# Altium schematic symbol library TarabusLibrary.SchLib: 307 symbols (part 4 of 4)
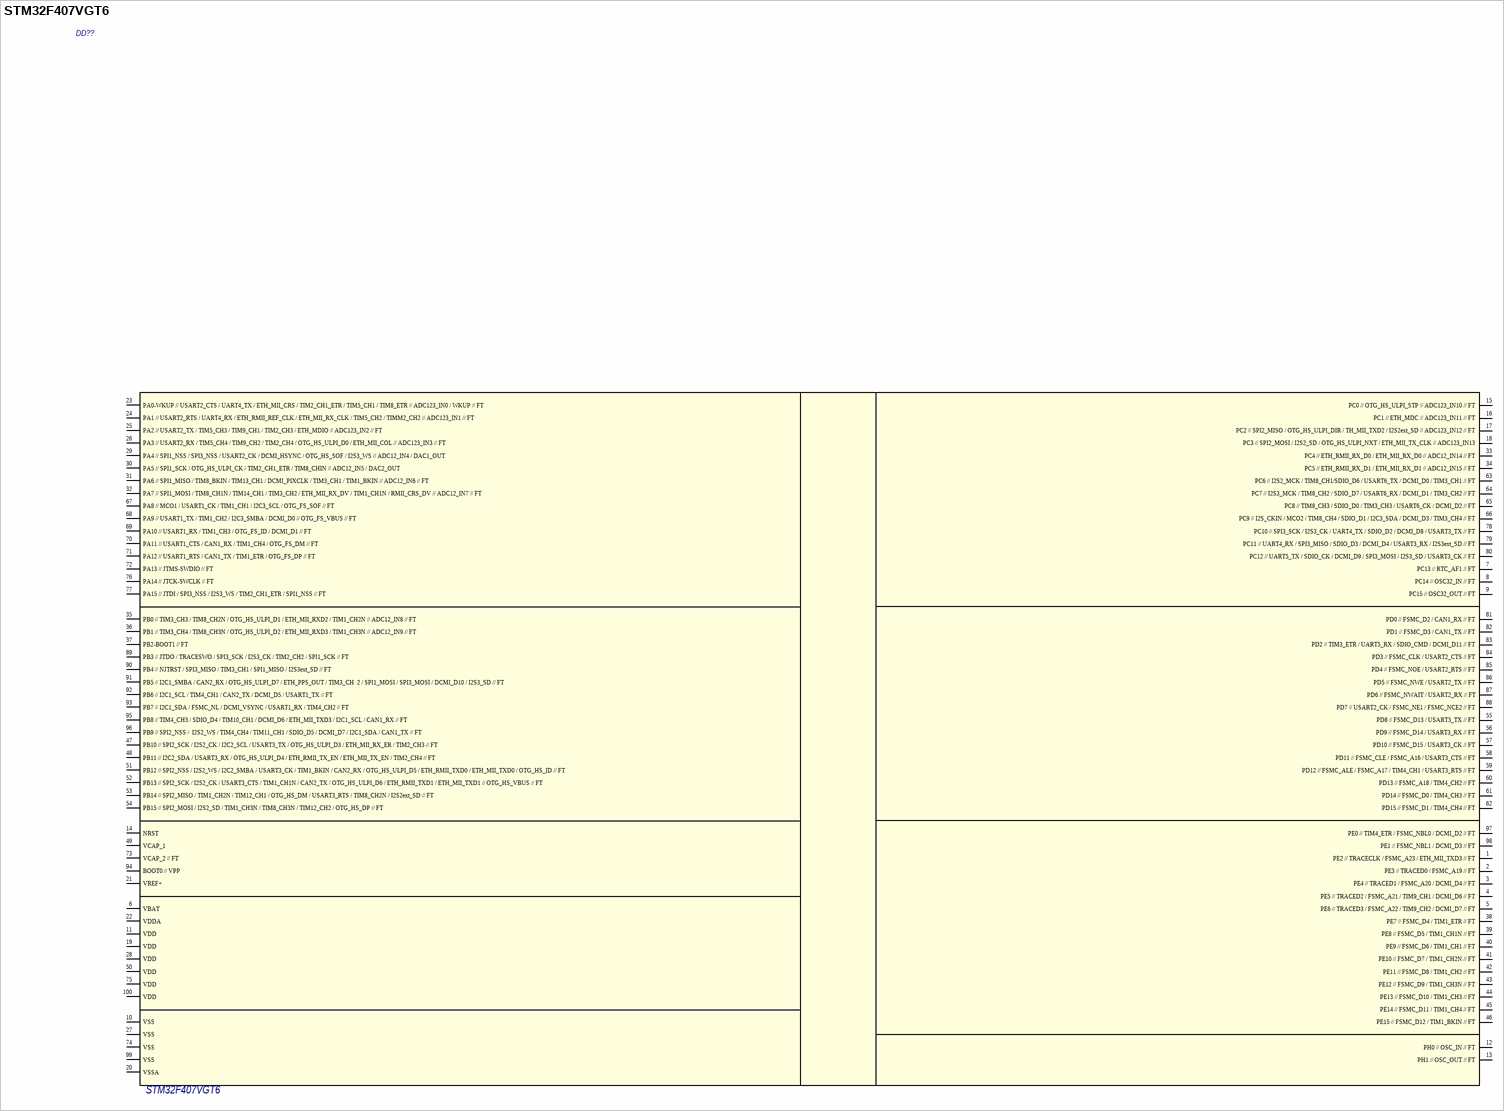
[diagram p48: symbol STM32F407VGT6]

## STM32F407VGT6
designator DD??
Микроконтроллер
footprint LQPF100_A
footprint LQPF100_H
pins: 1 PE2 // TRACECLK / FSMC_A23 / ETH_MII_TXD3 // FT, 2 PE3 // TRACED0 / FSMC_A19 // FT, 3 PE4 // TRACED1 / FSMC_A20 / DCMI_D4 // FT, 4 PE5 // TRACED2 / FSMC_A21 / TIM9_CH1 / DCMI_D6 // FT, 5 PE6 // TRACED3 / FSMC_A22 / TIM9_CH2 / DCMI_D7 // FT, 6 VBAT, 7 PC13 // RTC_AF1 // FT, 8 PC14 // OSC32_IN // FT, 9 PC15 // OSC32_OUT // FT, 10 VSS, 11 VDD, 12 PH0 // OSC_IN // FT, 13 PH1 // OSC_OUT // FT, 14 NRST, 15 PC0 // OTG_HS_ULPI_STP // ADC123_IN10 // FT, 16 PC1 // ETH_MDC // ADC123_IN11 // FT, 17 PC2 // SPI2_MISO / OTG_HS_ULPI_DIR / TH_MII_TXD2 / I2S2ext_SD // ADC123_IN12 // FT, 18 PC3 // SPI2_MOSI / I2S2_SD / OTG_HS_ULPI_NXT / ETH_MII_TX_CLK // ADC123_IN13, 19 VDD, 20 VSSA, 21 VREF+, 22 VDDA, 23 PA0-WKUP // USART2_CTS / UART4_TX / ETH_MII_CRS / TIM2_CH1_ETR / TIM5_CH1 / TIM8_ETR // ADC123_IN0 / WKUP // FT , 24 PA1 // USART2_RTS / UART4_RX / ETH_RMII_REF_CLK / ETH_MII_RX_CLK / TIM5_CH2 / TIMM2_CH2 // ADC123_IN1 // FT, 25 PA2 // USART2_TX / TIM5_CH3 / TIM9_CH1 / TIM2_CH3 / ETH_MDIO // ADC123_IN2 // FT, 26 PA3 // USART2_RX / TIM5_CH4 / TIM9_CH2 / TIM2_CH4 / OTG_HS_ULPI_D0 / ETH_MII_COL // ADC123_IN3 // FT, 27 VSS, 28 VDD, 29 PA4 // SPI1_NSS / SPI3_NSS / USART2_CK / DCMI_HSYNC / OTG_HS_SOF / I2S3_WS // ADC12_IN4 / DAC1_OUT , 30 PA5 // SPI1_SCK / OTG_HS_ULPI_CK / TIM2_CH1_ETR / TIM8_CHIN // ADC12_IN5 / DAC2_OUT, 31 PA6 // SPI1_MISO / TIM8_BKIN / TIM13_CH1 / DCMI_PIXCLK / TIM3_CH1 / TIM1_BKIN // ADC12_IN6 // FT, 32 PA7 // SPI1_MOSI / TIM8_CH1N / TIM14_CH1 / TIM3_CH2 / ETH_MII_RX_DV / TIM1_CH1N / RMII_CRS_DV // ADC12_IN7 // FT, 33 PC4 // ETH_RMII_RX_D0 / ETH_MII_RX_D0 // ADC12_IN14 // FT, 34 PC5 // ETH_RMII_RX_D1 / ETH_MII_RX_D1 // ADC12_IN15 // FT, 35 PB0 // TIM3_CH3 / TIM8_CH2N / OTG_HS_ULPI_D1 / ETH_MII_RXD2 / TIM1_CH2N // ADC12_IN8 // FT, 36 PB1 // TIM3_CH4 / TIM8_CH3N / OTG_HS_ULPI_D2 / ETH_MII_RXD3 / TIM1_CH3N // ADC12_IN9 // FT, 37 PB2-BOOT1 // FT, 38 PE7 // FSMC_D4 / TIM1_ETR // FT, 39 PE8 // FSMC_D5 / TIM1_CH1N // FT, 40 PE9 // FSMC_D6 / TIM1_CH1 // FT, 41 PE10 // FSMC_D7 / TIM1_CH2N // FT, 42 PE11 // FSMC_D8 / TIM1_CH2 // FT, 43 PE12 // FSMC_D9 / TIM1_CH3N // FT, 44 PE13 // FSMC_D10 / TIM1_CH3 // FT, 45 PE14 // FSMC_D11 / TIM1_CH4 // FT, 46 PE15 // FSMC_D12 / TIM1_BKIN // FT, 47 PB10 // SPI2_SCK / I2S2_CK / I2C2_SCL / USART3_TX / OTG_HS_ULPI_D3 / ETH_MII_RX_ER / TIM2_CH3 // FT, 48 PB11 // I2C2_SDA / USART3_RX / OTG_HS_ULPI_D4 / ETH_RMII_TX_EN / ETH_MII_TX_EN / TIM2_CH4 // FT, 49 VCAP_1, 50 VDD, 51 PB12 // SPI2_NSS / I2S2_WS / I2C2_SMBA / USART3_CK / TIM1_BKIN / CAN2_RX / OTG_HS_ULPI_D5 / ETH_RMII_TXD0 / ETH_MII_TXD0 / OTG_HS_ID // FT, 52 PB13 // SPI2_SCK / I2S2_CK / USART3_CTS / TIM1_CH1N / CAN2_TX / OTG_HS_ULPI_D6 / ETH_RMII_TXD1 / ETH_MII_TXD1 // OTG_HS_VBUS // FT, 53 PB14 // SPI2_MISO / TIM1_CH2N / TIM12_CH1 / OTG_HS_DM / USART3_RTS / TIM8_CH2N / I2S2ext_SD // FT, 54 PB15 // SPI2_MOSI / I2S2_SD / TIM1_CH3N / TIM8_CH3N / TIM12_CH2 / OTG_HS_DP // FT, 55 PD8 // FSMC_D13 / USART3_TX // FT, 56 PD9 // FSMC_D14 / USART3_RX // FT, 57 PD10 // FSMC_D15 / USART3_CK // FT, 58 PD11 // FSMC_CLE / FSMC_A16 / USART3_CTS // FT, 59 PD12 // FSMC_ALE / FSMC_A17 / TIM4_CH1 / USART3_RTS // FT, 60 PD13 // FSMC_A18 / TIM4_CH2 // FT, 61 PD14 // FSMC_D0 / TIM4_CH3 // FT, 62 PD15 // FSMC_D1 / TIM4_CH4 // FT, 63 PC6 // I2S2_MCK / TIM8_CH1/SDIO_D6 / USART6_TX / DCMI_D0 / TIM3_CH1 // FT, 64 PC7 // I2S3_MCK / TIM8_CH2 / SDIO_D7 / USART6_RX / DCMI_D1 / TIM3_CH2 // FT, 65 PC8 // TIM8_CH3 / SDIO_D0 / TIM3_CH3 / USART6_CK / DCMI_D2 // FT, 66 PC9 // I2S_CKIN / MCO2 / TIM8_CH4 / SDIO_D1 / I2C3_SDA / DCMI_D3 / TIM3_CH4 // FT, 67 PA8 // MCO1 / USART1_CK / TIM1_CH1 / I2C3_SCL / OTG_FS_SOF // FT, 68 PA9 // USART1_TX / TIM1_CH2 / I2C3_SMBA / DCMI_D0 // OTG_FS_VBUS // FT , 69 PA10 // USART1_RX / TIM1_CH3 / OTG_FS_ID / DCMI_D1 // FT, 70 PA11 // USART1_CTS / CAN1_RX / TIM1_CH4 / OTG_FS_DM // FT, 71 PA12 // USART1_RTS / CAN1_TX / TIM1_ETR / OTG_FS_DP // FT, 72 PA13 // JTMS-SWDIO // FT, 73 VCAP_2 // FT, 74 VSS, 75 VDD, 76 PA14 // JTCK-SWCLK // FT, 77 PA15 // JTDI / SPI3_NSS / I2S3_WS / TIM2_CH1_ETR / SPI1_NSS // FT, 78 PC10 // SPI3_SCK / I2S3_CK / UART4_TX / SDIO_D2 / DCMI_D8 / USART3_TX // FT, 79 PC11 // UART4_RX / SPI3_MISO / SDIO_D3 / DCMI_D4 / USART3_RX / I2S3ext_SD // FT, 80 PC12 // UART5_TX / SDIO_CK / DCMI_D9 / SPI3_MOSI / I2S3_SD / USART3_CK // FT, 81 PD0 // FSMC_D2 / CAN1_RX // FT, 82 PD1 // FSMC_D3 / CAN1_TX // FT, 83 PD2 // TIM3_ETR / UART5_RX / SDIO_CMD / DCMI_D11 // FT, 84 PD3 // FSMC_CLK / USART2_CTS // FT, 85 PD4 // FSMC_NOE / USART2_RTS // FT, 86 PD5 // FSMC_NWE / USART2_TX // FT, 87 PD6 // FSMC_NWAIT / USART2_RX // FT, 88 PD7 // USART2_CK / FSMC_NE1 / FSMC_NCE2 // FT, 89 PB3 // JTDO / TRACESWO / SPI3_SCK / I2S3_CK / TIM2_CH2 / SPI1_SCK // FT, 90 PB4 // NJTRST / SPI3_MISO / TIM3_CH1 / SPI1_MISO / I2S3ext_SD // FT, 91 PB5 // I2C1_SMBA / CAN2_RX / OTG_HS_ULPI_D7 / ETH_PPS_OUT / TIM3_CH  2 / SPI1_MOSI / SPI3_MOSI / DCMI_D10 / I2S3_SD // FT, 92 PB6 // I2C1_SCL / TIM4_CH1 / CAN2_TX / DCMI_D5 / USART1_TX // FT, 93 PB7 // I2C1_SDA / FSMC_NL / DCMI_VSYNC / USART1_RX / TIM4_CH2 // FT, 94 BOOT0 // VPP, 95 PB8 // TIM4_CH3 / SDIO_D4 / TIM10_CH1 / DCMI_D6 / ETH_MII_TXD3 / I2C1_SCL / CAN1_RX // FT, 96 PB9 // SPI2_NSS /  I2S2_WS / TIM4_CH4 / TIM11_CH1 / SDIO_D5 / DCMI_D7 / I2C1_SDA / CAN1_TX // FT, 97 PE0 // TIM4_ETR / FSMC_NBL0 / DCMI_D2 // FT, 98 PE1 // FSMC_NBL1 / DCMI_D3 // FT, 99 VSS, 100 VDD

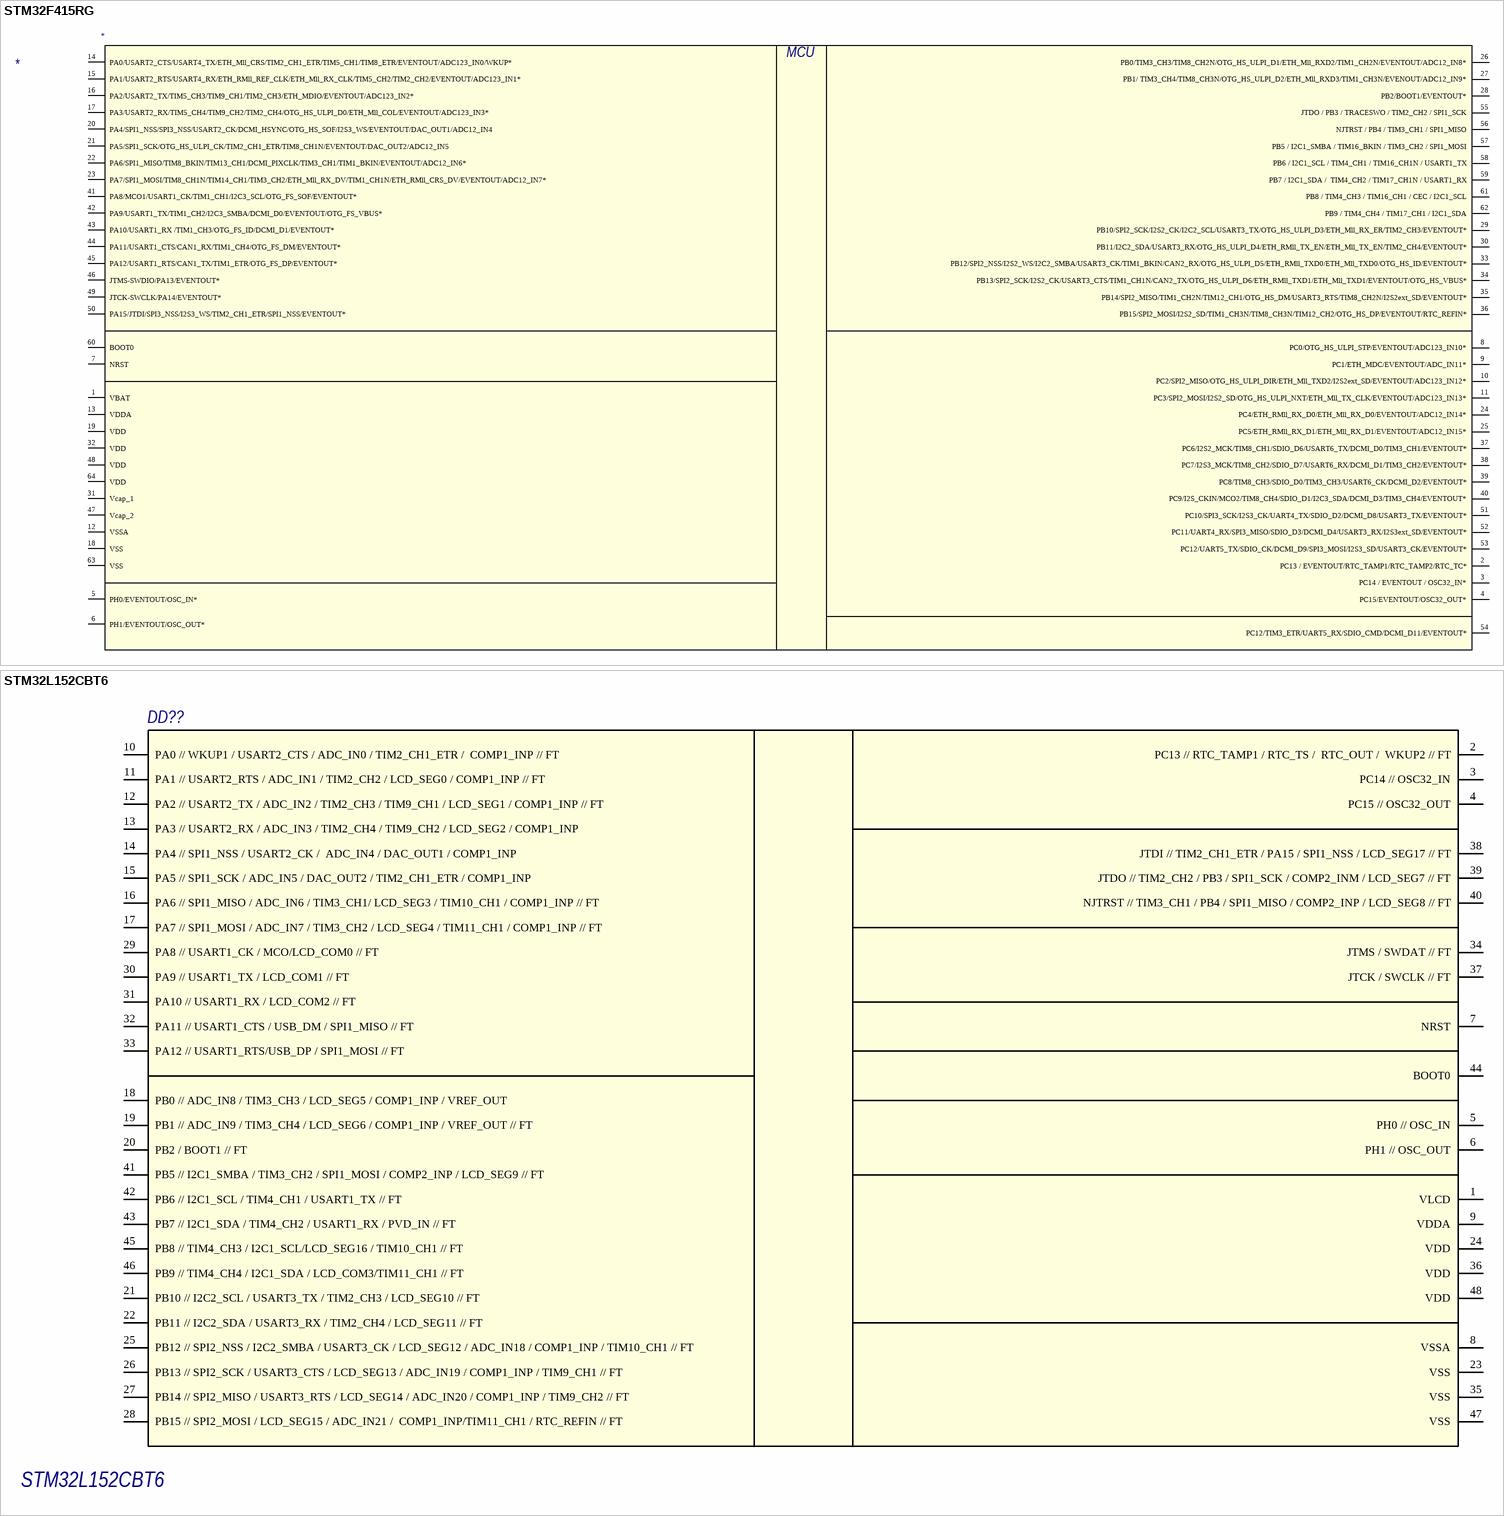
[diagram p39: symbols STM32F415RG to STM32L152CBT6]

## STM32F415RG
designator *
Микроконтроллер
footprint LQFP64_L (TSQFP, 64-Leads, Body 10,00x10,00mm, Pitch 0,50mm, IPC Medium Density)
footprint LQFP64_H (64-Pin Low Profile Quad Pack 0.5 mm Pitch, IPC High Density)
pins: 1 VBAT, 2 PC13 / EVENTOUT/RTC_TAMP1/RTC_TAMP2/RTC_TC*, 3 PC14 / EVENTOUT / OSC32_IN*, 4 PC15/EVENTOUT/OSC32_OUT*, 5 PH0/EVENTOUT/OSC_IN*, 6 PH1/EVENTOUT/OSC_OUT*, 7 NRST, 8 PC0/OTG_HS_ULPI_STP/EVENTOUT/ADC123_IN10*, 9 PC1/ETH_MDC/EVENTOUT/ADC_IN11*, 10 PC2/SPI2_MISO/OTG_HS_ULPI_DIR/ETH_Mll_TXD2/I2S2ext_SD/EVENTOUT/ADC123_IN12*, 11 PC3/SPI2_MOSI/I2S2_SD/OTG_HS_ULPI_NXT/ETH_Mll_TX_CLK/EVENTOUT/ADC123_IN13*, 12 VSSA, 13 VDDA, 14 PA0/USART2_CTS/USART4_TX/ETH_Mll_CRS/TIM2_CH1_ETR/TIM5_CH1/TIM8_ETR/EVENTOUT/ADC123_IN0/WKUP*, 15 PA1/USART2_RTS/USART4_RX/ETH_RMll_REF_CLK/ETH_Mll_RX_CLK/TIM5_CH2/TIM2_CH2/EVENTOUT/ADC123_IN1*, 16 PA2/USART2_TX/TIM5_CH3/TIM9_CH1/TIM2_CH3/ETH_MDIO/EVENTOUT/ADC123_IN2*, 17 PA3/USART2_RX/TIM5_CH4/TIM9_CH2/TIM2_CH4/OTG_HS_ULPI_D0/ETH_Mll_COL/EVENTOUT/ADC123_IN3*, 18 VSS, 19 VDD, 20 PA4/SPI1_NSS/SPI3_NSS/USART2_CK/DCMI_HSYNC/OTG_HS_SOF/I2S3_WS/EVENTOUT/DAC_OUT1/ADC12_IN4, 21 PA5/SPI1_SCK/OTG_HS_ULPI_CK/TIM2_CH1_ETR/TIM8_CH1N/EVENTOUT/DAC_OUT2/ADC12_IN5, 22 PA6/SPI1_MISO/TIM8_BKIN/TIM13_CH1/DCMI_PIXCLK/TIM3_CH1/TIM1_BKIN/EVENTOUT/ADC12_IN6*, 23 PA7/SPI1_MOSI/TIM8_CH1N/TIM14_CH1/TIM3_CH2/ETH_Mll_RX_DV/TIM1_CH1N/ETH_RMll_CRS_DV/EVENTOUT/ADC12_IN7*, 24 PC4/ETH_RMll_RX_D0/ETH_Mll_RX_D0/EVENTOUT/ADC12_IN14*, 25 PC5/ETH_RMll_RX_D1/ETH_Mll_RX_D1/EVENTOUT/ADC12_IN15*, 26 PB0/TIM3_CH3/TIM8_CH2N/OTG_HS_ULPI_D1/ETH_Mll_RXD2/TIM1_CH2N/EVENTOUT/ADC12_IN8*, 27 PB1/ TIM3_CH4/TIM8_CH3N/OTG_HS_ULPI_D2/ETH_Mll_RXD3/TIM1_CH3N/EVENOUT/ADC12_IN9*, 28 PB2/BOOT1/EVENTOUT*, 29 PB10/SPI2_SCK/I2S2_CK/I2C2_SCL/USART3_TX/OTG_HS_ULPI_D3/ETH_Mll_RX_ER/TIM2_CH3/EVENTOUT*, 30 PB11/I2C2_SDA/USART3_RX/OTG_HS_ULPI_D4/ETH_RMll_TX_EN/ETH_Mll_TX_EN/TIM2_CH4/EVENTOUT*, 31 Vcap_1, 32 VDD, 33 PB12/SPI2_NSS/I2S2_WS/I2C2_SMBA/USART3_CK/TIM1_BKIN/CAN2_RX/OTG_HS_ULPI_D5/ETH_RMll_TXD0/ETH_Mll_TXD0/OTG_HS_ID/EVENTOUT*, 34 PB13/SPI2_SCK/I2S2_CK/USART3_CTS/TIM1_CH1N/CAN2_TX/OTG_HS_ULPI_D6/ETH_RMll_TXD1/ETH_Mll_TXD1/EVENTOUT/OTG_HS_VBUS*, 35 PB14/SPI2_MISO/TIM1_CH2N/TIM12_CH1/OTG_HS_DM/USART3_RTS/TIM8_CH2N/I2S2ext_SD/EVENTOUT*, 36 PB15/SPI2_MOSI/I2S2_SD/TIM1_CH3N/TIM8_CH3N/TIM12_CH2/OTG_HS_DP/EVENTOUT/RTC_REFIN*, 37 PC6/I2S2_MCK/TIM8_CH1/SDIO_D6/USART6_TX/DCMI_D0/TIM3_CH1/EVENTOUT*, 38 PC7/I2S3_MCK/TIM8_CH2/SDIO_D7/USART6_RX/DCMI_D1/TIM3_CH2/EVENTOUT*, 39 PC8/TIM8_CH3/SDIO_D0/TIM3_CH3/USART6_CK/DCMI_D2/EVENTOUT*, 40 PC9/I2S_CKIN/MCO2/TIM8_CH4/SDIO_D1/I2C3_SDA/DCMI_D3/TIM3_CH4/EVENTOUT*, 41 PA8/MCO1/USART1_CK/TIM1_CH1/I2C3_SCL/OTG_FS_SOF/EVENTOUT*, 42 PA9/USART1_TX/TIM1_CH2/I2C3_SMBA/DCMI_D0/EVENTOUT/OTG_FS_VBUS*, 43 PA10/USART1_RX /TIM1_CH3/OTG_FS_ID/DCMI_D1/EVENTOUT*, 44 PA11/USART1_CTS/CAN1_RX/TIM1_CH4/OTG_FS_DM/EVENTOUT*, 45 PA12/USART1_RTS/CAN1_TX/TIM1_ETR/OTG_FS_DP/EVENTOUT*, 46 JTMS-SWDIO/PA13/EVENTOUT*, 47 Vcap_2, 48 VDD, 49 JTCK-SWCLK/PA14/EVENTOUT*, 50 PA15/JTDI/SPI3_NSS/I2S3_WS/TIM2_CH1_ETR/SPI1_NSS/EVENTOUT*, 51 PC10/SPI3_SCK/I2S3_CK/UART4_TX/SDIO_D2/DCMI_D8/USART3_TX/EVENTOUT*, 52 PC11/UART4_RX/SPI3_MISO/SDIO_D3/DCMI_D4/USART3_RX/I2S3ext_SD/EVENTOUT*, 53 PC12/UART5_TX/SDIO_CK/DCMI_D9/SPI3_MOSI/I2S3_SD/USART3_CK/EVENTOUT*, 54 PC12/TIM3_ETR/UART5_RX/SDIO_CMD/DCMI_D11/EVENTOUT*, 55 JTDO / PB3 / TRACESWO / TIM2_CH2 / SPI1_SCK, 56 NJTRST / PB4 / TIM3_CH1 / SPI1_MISO, 57 PB5 / I2C1_SMBA / TIM16_BKIN / TIM3_CH2 / SPI1_MOSI, 58 PB6 / I2C1_SCL / TIM4_CH1 / TIM16_CH1N / USART1_TX, 59 PB7 / I2C1_SDA /  TIM4_CH2 / TIM17_CH1N / USART1_RX, 60 BOOT0, 61 PB8 / TIM4_CH3 / TIM16_CH1 / CEC / I2C1_SCL, 62 PB9 / TIM4_CH4 / TIM17_CH1 / I2C1_SDA, 63 VSS, 64 VDD
text: MCU

## STM32L152CBT6
designator DD??
Микроконтроллер; Name: STM32L152CBT6
footprint LQFP48_L (Thin QFP, 48-Leads, Body 7x7mm, Pitch 0.5mm, IPC High Density)
footprint LQFP48_H
pins: 1 VLCD, 2 PC13 // RTC_TAMP1 / RTC_TS /  RTC_OUT /  WKUP2 // FT, 3 PC14 // OSC32_IN, 4 PC15 // OSC32_OUT, 5 PH0 // OSC_IN, 6 PH1 // OSC_OUT, 7 NRST, 8 VSSA, 9 VDDA, 10 PA0 // WKUP1 / USART2_CTS / ADC_IN0 / TIM2_CH1_ETR /  COMP1_INP // FT, 11 PA1 // USART2_RTS / ADC_IN1 / TIM2_CH2 / LCD_SEG0 / COMP1_INP // FT, 12 PA2 // USART2_TX / ADC_IN2 / TIM2_CH3 / TIM9_CH1 / LCD_SEG1 / COMP1_INP // FT, 13 PA3 // USART2_RX / ADC_IN3 / TIM2_CH4 / TIM9_CH2 / LCD_SEG2 / COMP1_INP, 14 PA4 // SPI1_NSS / USART2_CK /  ADC_IN4 / DAC_OUT1 / COMP1_INP, 15 PA5 // SPI1_SCK / ADC_IN5 / DAC_OUT2 / TIM2_CH1_ETR / COMP1_INP, 16 PA6 // SPI1_MISO / ADC_IN6 / TIM3_CH1/ LCD_SEG3 / TIM10_CH1 / COMP1_INP // FT, 17 PA7 // SPI1_MOSI / ADC_IN7 / TIM3_CH2 / LCD_SEG4 / TIM11_CH1 / COMP1_INP // FT, 18 PB0 // ADC_IN8 / TIM3_CH3 / LCD_SEG5 / COMP1_INP / VREF_OUT, 19 PB1 // ADC_IN9 / TIM3_CH4 / LCD_SEG6 / COMP1_INP / VREF_OUT // FT, 20 PB2 / BOOT1 // FT, 21 PB10 // I2C2_SCL / USART3_TX / TIM2_CH3 / LCD_SEG10 // FT, 22 PB11 // I2C2_SDA / USART3_RX / TIM2_CH4 / LCD_SEG11 // FT, 23 VSS, 24 VDD, 25 PB12 // SPI2_NSS / I2C2_SMBA / USART3_CK / LCD_SEG12 / ADC_IN18 / COMP1_INP / TIM10_CH1 // FT, 26 PB13 // SPI2_SCK / USART3_CTS / LCD_SEG13 / ADC_IN19 / COMP1_INP / TIM9_CH1 // FT, 27 PB14 // SPI2_MISO / USART3_RTS / LCD_SEG14 / ADC_IN20 / COMP1_INP / TIM9_CH2 // FT, 28 PB15 // SPI2_MOSI / LCD_SEG15 / ADC_IN21 /  COMP1_INP/TIM11_CH1 / RTC_REFIN // FT, 29 PA8 // USART1_CK / MCO/LCD_COM0 // FT, 30 PA9 // USART1_TX / LCD_COM1 // FT, 31 PA10 // USART1_RX / LCD_COM2 // FT, 32 PA11 // USART1_CTS / USB_DM / SPI1_MISO // FT, 33 PA12 // USART1_RTS/USB_DP / SPI1_MOSI // FT, 34 JTMS / SWDAT // FT, 35 VSS, 36 VDD, 37 JTCK / SWCLK // FT, 38 JTDI // TIM2_CH1_ETR / PA15 / SPI1_NSS / LCD_SEG17 // FT, 39 JTDO // TIM2_CH2 / PB3 / SPI1_SCK / COMP2_INM / LCD_SEG7 // FT, 40 NJTRST // TIM3_CH1 / PB4 / SPI1_MISO / COMP2_INP / LCD_SEG8 // FT, 41 PB5 // I2C1_SMBA / TIM3_CH2 / SPI1_MOSI / COMP2_INP / LCD_SEG9 // FT, 42 PB6 // I2C1_SCL / TIM4_CH1 / USART1_TX // FT, 43 PB7 // I2C1_SDA / TIM4_CH2 / USART1_RX / PVD_IN // FT, 44 BOOT0, 45 PB8 // TIM4_CH3 / I2C1_SCL/LCD_SEG16 / TIM10_CH1 // FT, 46 PB9 // TIM4_CH4 / I2C1_SDA / LCD_COM3/TIM11_CH1 // FT, 47 VSS, 48 VDD

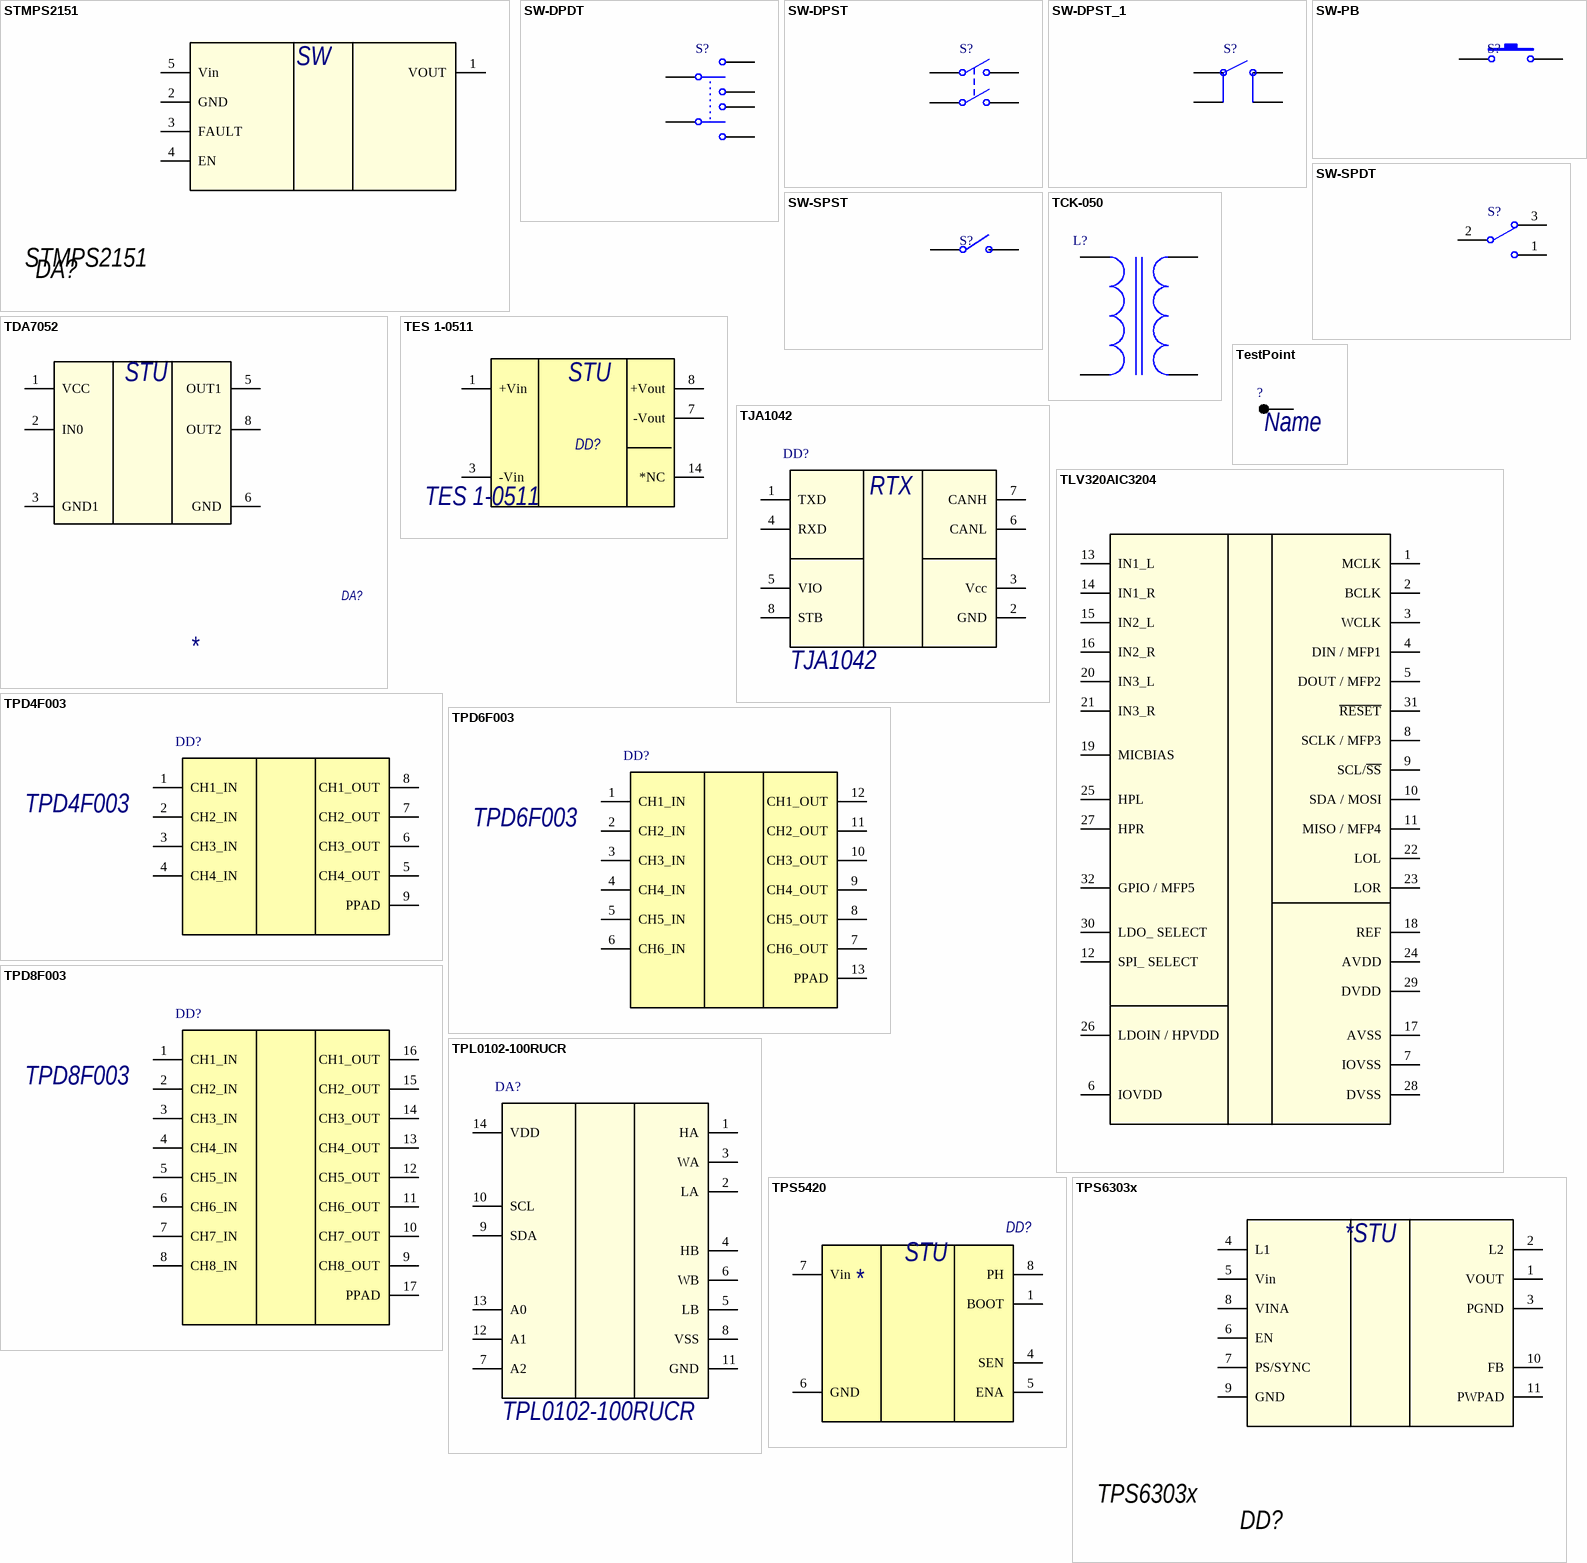
[diagram p40: symbols STMPS2151 to TPS6303x]

## STMPS2151
designator DA?  Name: STMPS2151  (hidden comment: *)
footprint SOT23-5_A
footprint SOT23-5_H
pins: 1 VOUT, 2 GND, 3 FAULT, 4 EN, 5 Vin
text: SW

## SW-DPDT
designator S?
Double-Pole, Double-Throw Switch; Published: 24-Mar-1999; LatestRevisionDate: 17-Jul-2002; LatestRevisionNote: Re-released for DXP Platform.; PackageReference: DPDT-6; Publisher: Altium Limited; PackageDescription: Switch; 6 Leads
footprint DPDT-6 (Switch; 6 Leads)
pins: 1, 2, 3, 4, 5, 6

## SW-DPST
designator S?
Double-Pole, Single-Throw Switch; Published: 24-Mar-1999; LatestRevisionDate: 17-Jul-2002; LatestRevisionNote: Re-released for DXP Platform.; PackageReference: DPST-4; Publisher: Altium Limited; PackageDescription: Switch; 4 Leads
footprint DPST-4 (Switch; 4 Leads)
pins: 1, 2, 3, 4

## SW-DPST_1
designator S?
Double-Pole, Single-Throw Switch; Published: 24-Mar-1999; LatestRevisionDate: 17-Jul-2002; LatestRevisionNote: Re-released for DXP Platform.; PackageReference: DPST-4; Publisher: Altium Limited; PackageDescription: Switch; 4 Leads
footprint DPST-4 (Switch; 4 Leads)
footprint Tact_Switch_TH
pins: 1, 2, 3, 4

## SW-PB
designator S?
Switch; Published: 24-Mar-1999; LatestRevisionDate: 17-Jul-2002; LatestRevisionNote: Re-released for DXP Platform.; PackageReference: SPST-2; Publisher: Altium Limited; PackageDescription: Switch; 2 Leads
footprint SPST-2 (Switch; 2 Leads)
pins: 1, 2

## SW-SPDT
designator S?
SPDT Subminiature Toggle Switch, Right Angle Mounting, Vertical Actuation; Published: 24-Mar-1999; LatestRevisionDate: 17-Dec-2003; LatestRevisionNote: Schematic revised, PCB Footprint replaced.; DatasheetVersion: 05-Dec-2000; PackageReference: TL36WW15050; Publisher: Altium Limited; PackageDescription: Switch; 4 Leads; ComponentLink1Description: Manufacturer Link; ComponentLink1URL: http://www.apem.com
footprint TL36WW15050 (Switch; 4 Leads)
pins: 1, 2, 3

## SW-SPST
designator S?
Single-Pole, Single-Throw Switch; Published: 24-Mar-1999; LatestRevisionDate: 17-Jul-2002; LatestRevisionNote: Re-released for DXP Platform.; PackageReference: SPST-2; Publisher: Altium Limited; PackageDescription: Switch; 2 Leads
footprint SPST-2 (Switch; 2 Leads)
pins: 1, 2

## TCK-050
designator L?  (value not drawn)
Индуктивность; Name: *
footprint TCK-050
pins: 1, 2, 3, 4

## TDA7052
designator DA?
footprint SO8_H
pins: 1 VCC, 2 IN0, 3 GND1, 4 NC hidden, 5 OUT1, 6 GND, 7 NC hidden, 8 OUT2
text: STU

## TES 1-0511
designator DD?
DC/DC ковертор
footprint TES 1 (Посадка для DC/DC TES 1)
pins: 1 +Vin, 3 -Vin, 7 -Vout, 8 +Vout, 14 *NC
text: STU

## TestPoint
designator ?, comment Name
Test point; Name: Name
footprint PLS2-1
footprint 0.8_1.4x1.4_square
footprint Model Name (Footprint not found)
footprint Testpoint_KEY5000
pins: 1

## TJA1042
designator DD?
Приемопередатчик CAN; Name: TJA1042
footprint HVSON8 (PSON, 8-Leads, Body 4x4mm, Pitch 0.8mm, NSC Recommended)
pins: 1 TXD, 2 GND, 3 Vcc, 4 RXD, 5 VIO, 6 CANL, 7 CANH, 8 STB
text: RTX

## TLV320AIC3204
designator DD?
Ultra Low Power Stereo Audio Codec; PortComponent: True; Published: 22-Jan-2007; Publisher: Altium Limited; HelpURL: https://wiki.altium.com/display/ADOH/NanoBoard+3000+-+Audio+CODEC
footprint VQFN32
pins: 1 MCLK (power) "Ground (0V)", 2 BCLK (power) "USB power connection", 3 WCLK (power) "Power supply (+3.3V DC) for de-coupling purposes", 4 DIN / MFP1 (power) "Antenna connection 1", 5 DOUT / MFP2 (power) "Antenna connection 1", 6 IOVDD (power) "Reset for microcontroller, active low", 7 IOVSS (power) "Ground (0V)", 8 SCLK / MFP3 (power) "Ground (0V)", 9 SCL/~{SS} (power) "Power supply (+3.3V DC) for de-coupling purposes", 10 SDA / MOSI (power) "Ground (0V)", 11 MISO / MFP4 (power) "USB data +", 12 SPI_ SELECT (power) "USB data -", 13 IN1_L (power) "Power supply (+3.3V DC) for de-coupling purposes", 14 IN1_R (power) "Power supply (+3.3V DC) for de-coupling purposes", 15 IN2_L (power) "Power supply (+3.3V DC) for de-coupling purposes", 16 IN2_R (power) "Reference current", 17 AVSS (power) "Positive Digital Supply output for de-coupling purposes", 18 REF (power) "Reserved for programming the flash", 19 MICBIAS (power) "Antenna connection 2", 20 IN3_L (power) "Power supply (+3.3V DC) for de-coupling purposes", 21 IN3_R (power) "Ground (0V)", 22 LOL (power) "Power Supply (+1.8V) to Power Amplifier", 23 LOR (power) "General purpose data Port 0, bit 0", 24 AVDD (power) "General purpose data Port 0, bit 1", 25 HPL (power) "General purpose data Port 0, bit 2", 26 LDOIN / HPVDD (power) "General purpose data Port 0, bit 3", 27 HPR (power) "General purpose data Port 0, bit 4", 28 DVSS (power) "General purpose data Port 0, bit 5", 29 DVDD (power) "Positive Digital Supply output for de-coupling purposes", 30 LDO_ SELECT (power) "GND", 31 ~{RESET} (power) "GND", 32 GPIO / MFP5 (power) "GND"

## TPD4F003
designator DD?
EMI Filter with Integrated ESD Protection, 4 Channels, -40 to +85 degC, 8-pin WSON (DQD), Green (RoHS & no Sb/Br); Manufacturer: Texas Instruments; PartNumber: TPD4F003DQDR; Breakdown Voltage(Min)(V): 6; Ctotal(Typ)(pF): 17; IEC 61000-4-2 Air-Gap(Typ)(+/- kV): 20; IEC 61000-4-2 Contact(Typ)(+/- kV): 12; SubFamily: EMI Solution; DatasheetVersion: SLLS907D; PackageVersion: revC, Dec-2011; PackageReference: DQD8-1200X400TP; PackageDescription: 8-Pin Plastic Small Outline No-Lead, 1.35 x 1.7 x 0.8 mm Body, 0.4 mm Pitch, Exposed Pad; Supplier 1: Digi-Key; Supplier Part Number 1: 296-25817-2-ND; Supplier 2: Digi-Key; Supplier Part Number 2: 296-25817-1-ND; Supplier 3: Digi-Key; Supplier Part Number 3: 296-25817-6-ND; Supplier 4: Farnell; Supplier Part Number 4: 1815758RL; Supplier 5: Farnell; Supplier Part Number 5: 1815758; Supplier 6: Newark; Supplier Part Number 6: 65R4599; Supplier 7: Mouser; Supplier Part Number 7: 595-TPD4F003DQDR; Eco-Plan: Green (RoHS & no Sb/Br); Mounting Technology: Surface Mount; ComponentLink1Description: Datasheet; ComponentLink1URL: http://www.ti.com/general/docs/lit/getliterature.tsp?genericPartNumber=TPD4F003&fileType=pdf; ComponentLink2Description: URL Link1; ComponentLink2URL: SamplesURL:http://www.ti.com/product/tpd4f003#samples; Name: TPD4F003
footprint DQD8-1200X400TP (SON, 8-Leads, Body 1.35x1.7mm, Pitch 0.4mm, Thermal Pad 1.2x0.4mm, TI Recommended)
pins: 1 CH1_IN, 2 CH2_IN, 3 CH3_IN, 4 CH4_IN, 5 CH4_OUT, 6 CH3_OUT, 7 CH2_OUT, 8 CH1_OUT, 9 PPAD (power)

## TPD6F003
designator DD?
EMI Filter for Display Interface, 6 Channels, -40 to +85 degC, 12-pin WSON (DQD), Green (RoHS & no Sb/Br); Manufacturer: Texas Instruments; PartNumber: TPD6F003DQDR; Breakdown Voltage(Min)(V): 6; Ctotal(Typ)(pF): 19; IEC 61000-4-2 Air-Gap(Typ)(+/- kV): 20; IEC 61000-4-2 Contact(Typ)(+/- kV): 12; SubFamily: EMI Solution; DatasheetVersion: SLLS907D; PackageVersion: revC, Dec-2011; PackageReference: DQD12-2000X400TP; PackageDescription: 12-Pin Plastic Small Outline No-Lead, 1.35 x 2.5 x 0.8 mm Body, 0.4 mm Pitch, Exposed Pad; Supplier 1: Digi-Key; Supplier Part Number 1: 296-25802-2-ND; Supplier 2: Digi-Key; Supplier Part Number 2: 296-25802-1-ND; Supplier 3: Digi-Key; Supplier Part Number 3: 296-25802-6-ND; Supplier 4: Farnell; Supplier Part Number 4: 1863883; Supplier 5: Newark; Supplier Part Number 5: 69R4547; Supplier 6: Mouser; Supplier Part Number 6: 595-TPD6F003DQDR; Eco-Plan: Green (RoHS & no Sb/Br); Mounting Technology: Surface Mount; ComponentLink1Description: Datasheet; ComponentLink1URL: http://www.ti.com/general/docs/lit/getliterature.tsp?genericPartNumber=TPD6F003&fileType=pdf; ComponentLink2Description: URL Link1; ComponentLink2URL: SamplesURL:http://www.ti.com/product/tpd6f003#samples; Name: TPD6F003
footprint DQD12-2000X400TP (SON, 12-Leads, Body 1.35x2.5mm, Pitch 0.4mm, Thermal Pad 2x0.4mm, TI Recommended)
pins: 1 CH1_IN, 2 CH2_IN, 3 CH3_IN, 4 CH4_IN, 5 CH5_IN, 6 CH6_IN, 7 CH6_OUT, 8 CH5_OUT, 9 CH4_OUT, 10 CH3_OUT, 11 CH2_OUT, 12 CH1_OUT, 13 PPAD (power)

## TPD8F003
designator DD?
EMI Filter for Display Interface, 8 Channels, -40 to +85 degC, 16-pin WSON (DQD), Green (RoHS & no Sb/Br); Manufacturer: Texas Instruments; PartNumber: TPD8F003DQDR; Breakdown Voltage(Min)(V): 6; Ctotal(Typ)(pF): 17; IEC 61000-4-2 Air-Gap(Typ)(+/- kV): 20; IEC 61000-4-2 Contact(Typ)(+/- kV): 12; SubFamily: EMI Solution; DatasheetVersion: SLLS907D; PackageVersion: revC, Dec-2011; PackageReference: DQD16-2800X400TP; PackageDescription: 16-Pin Plastic Small Outline No-Lead, 1.35 x 3.3 x 0.8 mm Body, 0.4 mm Pitch, Exposed Pad; Supplier 1: Digi-Key; Supplier Part Number 1: 296-25803-2-ND; Supplier 2: Digi-Key; Supplier Part Number 2: 296-25803-1-ND; Supplier 3: Digi-Key; Supplier Part Number 3: 296-25803-6-ND; Supplier 4: Farnell; Supplier Part Number 4: 1863884; Supplier 5: Newark; Supplier Part Number 5: 69R4548; Supplier 6: Mouser; Supplier Part Number 6: 595-TPD8F003DQDR; Eco-Plan: Green (RoHS & no Sb/Br); Mounting Technology: Surface Mount; ComponentLink1Description: Datasheet; ComponentLink1URL: http://www.ti.com/general/docs/lit/getliterature.tsp?genericPartNumber=TPD8F003&fileType=pdf; ComponentLink2Description: URL Link1; ComponentLink2URL: SamplesURL:http://www.ti.com/product/tpd8f003#samples; Name: TPD8F003
footprint DQD16-2800X400TP (SON, 16-Leads, Body 1.35x3.3mm, Pitch 0.4mm, Thermal Pad 2.8x0.4mm, TI Recommended)
pins: 1 CH1_IN, 2 CH2_IN, 3 CH3_IN, 4 CH4_IN, 5 CH5_IN, 6 CH6_IN, 7 CH7_IN, 8 CH8_IN, 9 CH8_OUT, 10 CH7_OUT, 11 CH6_OUT, 12 CH5_OUT, 13 CH4_OUT, 14 CH3_OUT, 15 CH2_OUT, 16 CH1_OUT, 17 PPAD (power)

## TPL0102-100RUCR
designator DA?
256 Tap Dual Channel Digital Potentiometer with I2C Interface and Non-Volatile Memory, -40 to 85 degC, 14-pin QFN (RUC14), Green (RoHS & no Sb/Br); Manufacturer: Texas Instruments; DAC Channels: 2; DNL(Max)(+/-LSB): 0.25; INL(Max)(+/-LSB): 0.5; DatasheetVersion: SLIS134B; PackageVersion: 4208447/C, 08/2008; PackageReference: RUC14; PackageDescription: 14-Pin Plastic Quad Flatpack No-Lead, Body 2 x 2 mm, Pitch 0.4 mm; Supplier Part Number 1: 296-28379-2-ND; Supplier Part Number 2: 296-28379-1-ND; Supplier Part Number 3: 296-28379-6-ND; Supplier Part Number 4: 1895372; Supplier Part Number 5: 47T5679; Supplier Part Number 6: 595-TPL0102-100RUCR; Eco-Plan: Green (RoHS & no Sb/Br); Interface: I2C; SubFamily: Digital Potentiometer; Mounting Technology: Surface Mount; Code_JEDEC: MO-288; ComponentLink1Description: Manufacturer URL; ComponentLink1URL: http://www.ti.com/; ComponentLink2Description: Datasheet; ComponentLink2URL: http://www.ti.com/general/docs/lit/getliterature.tsp?genericPartNumber=TPL0102-100&fileType=pdf; ComponentLink3Description: Package Specification; ComponentLink3URL: http://www.ti.com/lit/ml/mpqf212b/mpqf212b.pdf; PartNumber: TPL0102-100RUCR
footprint TI-RUC14_V (QFN, 14-Leads, Body 2x2mm, Pitch 0.4mm)
pins: 1 HA (power) "High terminal of Potentiometer A", 2 LA (power) "Low terminal of Potentiometer A", 3 WA (power) "Wiper terminal of Potentiometer A", 4 HB (power) "High terminal of Potentiometer B", 5 LB (power) "Low terminal of Potentiometer B", 6 WB (power) "Wiper terminal of Potentiometer B", 7 A2 (power) "Address Bit 2", 8 VSS (power) "Negative or GND Power Supply Pin", 9 SDA (power) "I2C Data I/O", 10 SCL (power) "I2C Clock Input", 11 GND (power) "Ground", 12 A1 (power) "Address Bit 1", 13 A0 (power) "Address Bit 0", 14 VDD (power) "Positive Power Supply Pin"

## TPS5420
designator DD?
footprint SO8_A
pins: 1 BOOT, 4 SEN, 5 ENA, 6 GND, 7 Vin, 8 PH
text: STU

## TPS6303x
designator DD?  Name: TPS6303x  (hidden comment: *)
DC/DC Buck-Boost
footprint QFN10
pins: 1 VOUT, 2 L2, 3 PGND, 4 L1, 5 Vin, 6 EN, 7 PS/SYNC, 8 VINA, 9 GND, 10 FB, 11 PWPAD
text: *STU

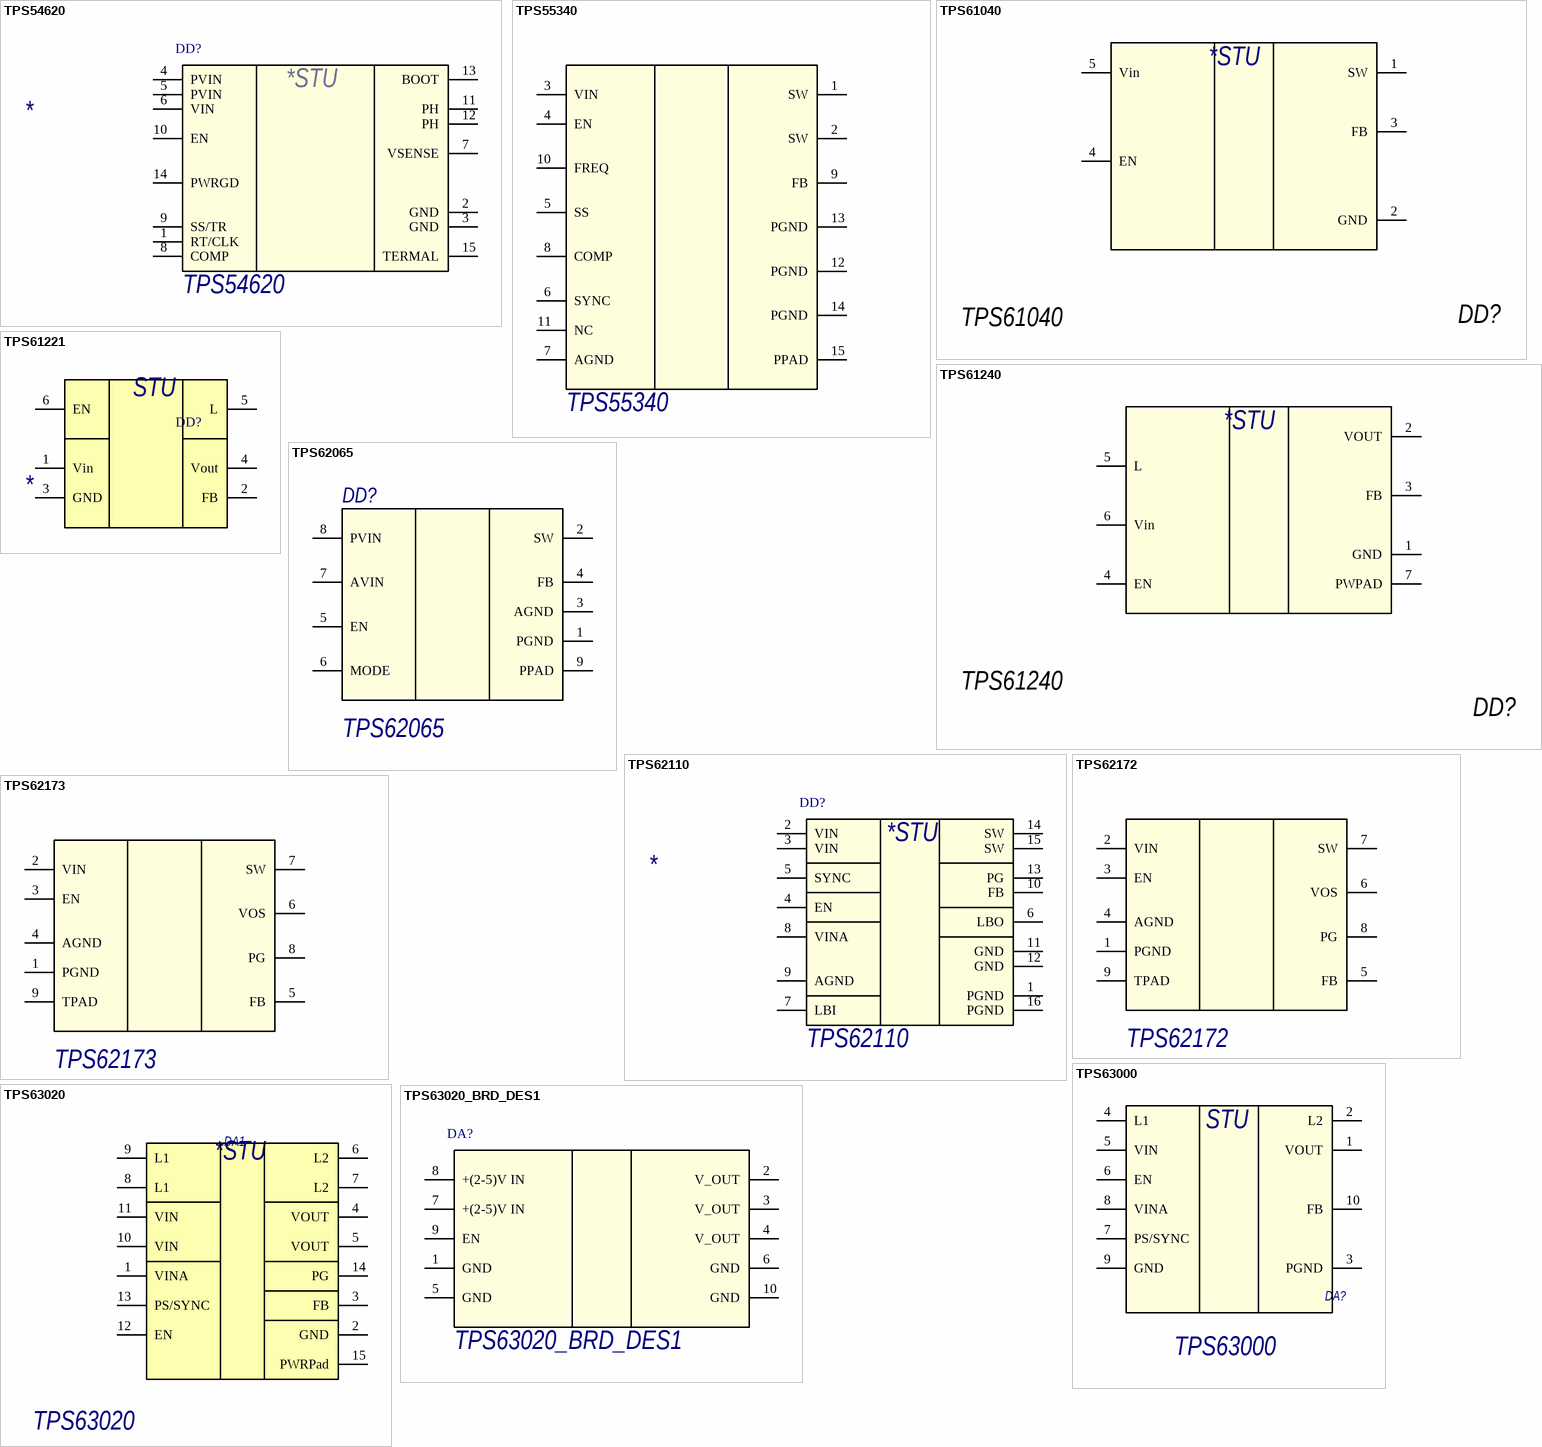
[diagram p41: symbols TPS54620 to TPS63020_BRD_DES1]

## TPS54620
designator DD?  Name: TPS54620
DC/DC
footprint S-PVQFN-N14_A
footprint S-PVQFN-N14_H
pins: 1 RT/CLK, 2 GND, 3 GND, 4 PVIN, 5 PVIN, 6 VIN, 7 VSENSE, 8 COMP, 9 SS/TR, 10 EN, 11 PH, 12 PH, 13 BOOT, 14 PWRGD, 15 TERMAL
text: *STU

## TPS55340
designator DD?
Integrated 5-A 40-V Wide Input Range Boost/SEPIC/Flyback DC-DC Regulator; Value: Value; Name: TPS55340
footprint HTSSOP14
pins: 1 SW (power), 2 SW (power), 3 VIN (power), 4 EN (power), 5 SS (power), 6 SYNC (power), 7 AGND (power), 8 COMP (power), 9 FB (power), 10 FREQ (power), 11 NC (power), 12 PGND (power), 13 PGND (power), 14 PGND (power), 15 PPAD (power)

## TPS61040
designator DD?  Name: TPS61040  (hidden comment: *)
footprint SOT23-5_A
footprint SOT23-5_H
pins: 1 SW, 2 GND, 3 FB, 4 EN, 5 Vin
text: *STU

## TPS61221
designator DD?
footprint SC70
pins: 1 Vin, 2 FB, 3 GND, 4 Vout, 5 L, 6 EN
text: STU

## TPS61240
designator DD?
Name: TPS61240
footprint QFN6_A
pins: 1 GND, 2 VOUT, 3 FB, 4 EN, 5 L, 6 Vin, 7 PWPAD
text: *STU

## TPS62065
designator DD?
3-MHz 2A Step Down Converter in 2x2 SON Package; Value: Value; Name: TPS62065
footprint WSON-8 (PSON, 8-Leads, Body 4x4mm, Pitch 0.8mm, NSC Recommended)
pins: 1 PGND, 2 SW, 3 AGND, 4 FB, 5 EN, 6 MODE, 7 AVIN, 8 PVIN, 9 PPAD

## TPS62110
designator DD?  Name: TPS62110
DC/DC
footprint S-PVQFN-N15
pins: 1 PGND, 2 VIN, 3 VIN, 4 EN, 5 SYNC, 6 LBO, 7 LBI, 8 VINA, 9 AGND, 10 FB, 11 GND, 12 GND, 13 PG, 14 SW, 15 SW, 16 PGND
text: *STU

## TPS62172
designator DD?
3-17V 0.5A Step-Down Converter with DCS-Control; Value: Fixed 3.3; Name: TPS62172
footprint WSON-8 (PSON, 8-Leads, Body 4x4mm, Pitch 0.8mm, NSC Recommended)
pins: 1 PGND, 2 VIN, 3 EN, 4 AGND, 5 FB, 6 VOS, 7 SW, 8 PG, 9 TPAD

## TPS62173
designator DD?
3-17V 0.5A Step-Down Converter with DCS-Control; Name: TPS62173
footprint WSON-8 (PSON, 8-Leads, Body 4x4mm, Pitch 0.8mm, NSC Recommended)
pins: 1 PGND, 2 VIN, 3 EN, 4 AGND, 5 FB, 6 VOS, 7 SW, 8 PG, 9 TPAD

## TPS63000
designator DA?
DC/DC
footprint QFN-10
pins: 1 VOUT, 2 L2, 3 PGND, 4 L1, 5 VIN, 6 EN, 7 PS/SYNC, 8 VINA, 9 GND, 10 FB
text: STU

## TPS63020
designator DA1
DC-DC; Name: TPS63020
footprint PVSON14_A
footprint PVSON14_H
pins: 1 VINA, 2 GND, 3 FB, 4 VOUT, 5 VOUT, 6 L2, 7 L2, 8 L1, 9 L1, 10 VIN, 11 VIN, 12 EN, 13 PS/SYNC, 14 PG, 15 PWRPad
text: *STU

## TPS63020_BRD_DES1
designator DA?
800mA Low-Dropout Linear Regulator; Name: TPS63020_BRD_DES1
footprint TPS63020_Des1
pins: 1 GND, 2 V_OUT, 3 V_OUT, 4 V_OUT, 5 GND, 6 GND, 7 +(2-5)V IN, 8 +(2-5)V IN, 9 EN, 10 GND

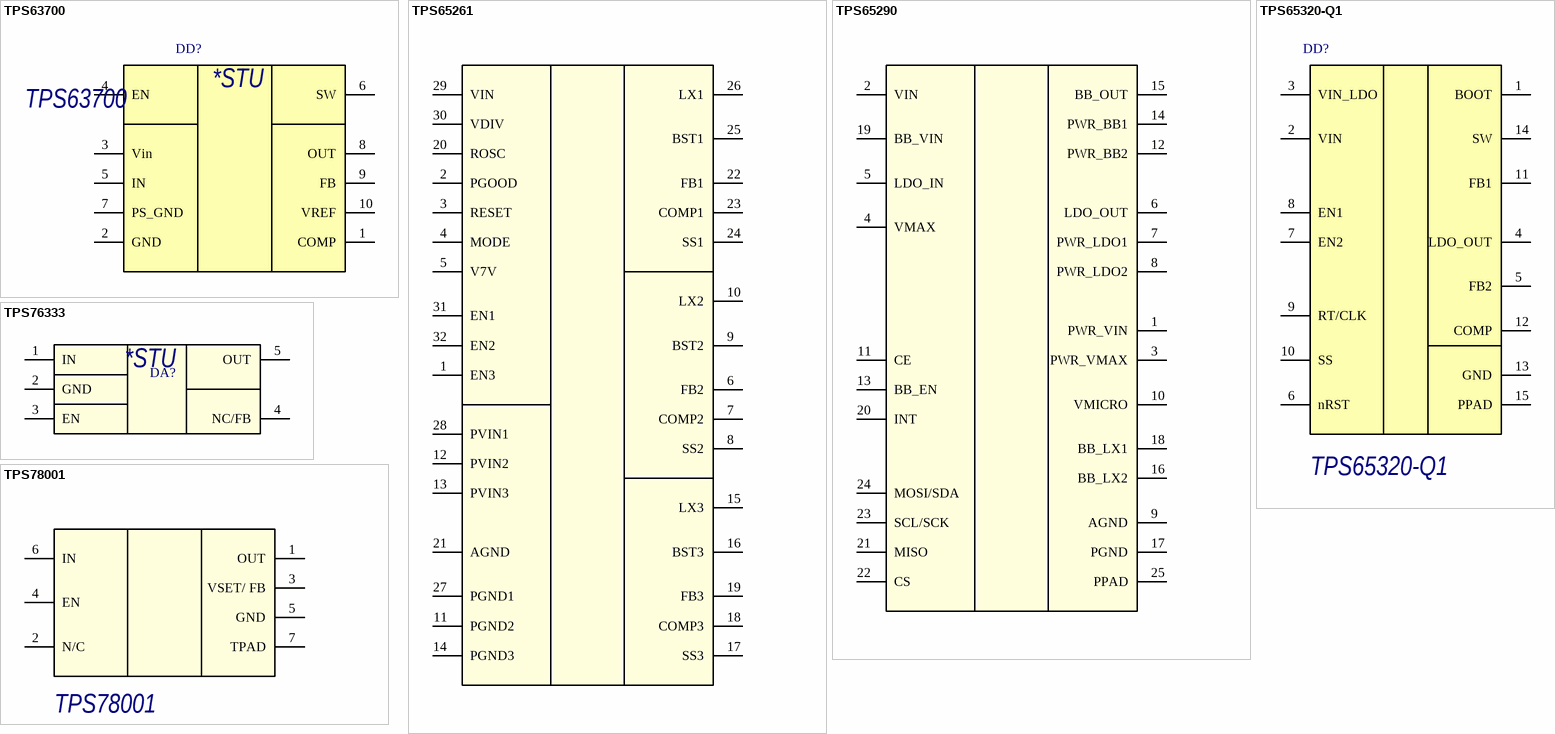
[diagram p42: symbols TPS63700 to TPS78001]

## TPS63700
designator DD?
Инвертер -5В; Name: TPS63700
footprint SON-10
pins: 1 COMP, 2 GND, 3 Vin, 4 EN, 5 IN, 6 SW, 7 PS_GND, 8 OUT, 9 FB, 10 VREF
text: *STU

## TPS65261
designator DD?
4.5V to 18V Input Voltage, 3A/2A/2A Output Current Triple Synchronous Step-Down Converter; PortComponent: True; Published: 22-Jan-2007; Publisher: Altium Limited; HelpURL: http://www.ti.com/product/tps65261
footprint VQFN32
pins: 1 EN3 (power) "Enable for buck3. Float to enable. Can use this pin to adjust the input under-voltage lockout of buck3 with a resistor 1 EN3 divider", 2 PGOOD (power) "An open drain output, asserts low if output voltage of any buck beyond regulation range due to thermal shutdown,  over-current, under-voltage or ENx shut down.", 3 RESET (power) "Open drain power failure output signal.", 4 MODE (power) "When high, an automatic power-up/power-down sequence is provided according to states of EN1, EN2 and EN3  pins.", 5 V7V (power) "Internal LDO for gate driver and internal controller. Connect a 1µF capacitor from the pin to power ground", 6 FB2 (power) "Feedback Kelvin sensing pin for buck2 output voltage. Connect this pin to buck2 resistor divider.", 7 COMP2 (power) "Error amplifier output and Loop compensation pin for buck2. Connect a series resistor and capacitor to compensate the control loop of buck2 with peak current PWM mode.", 8 SS2 (power) "Soft-start and tracking input for buck2. An internal 5µA pull-up current source is connected to this pin. The soft-start  time can be programmed by connecting a capacitor between this pin and ground.", 9 BST2 (power) "Boot strapped supply to the high side floating gate driver in buck2. Connect a capacitor (recommend 47nF) from  BST2 pin to LX2 pin.", 10 LX2 (power) "Switching node connection to the inductor and bootstrap capacitor for buck2. The voltage swing at this pin is from a", 11 PGND2 (power) "10 LX2 diode voltage below the ground up to PVIN2 voltage.", 12 PVIN2 (power), 13 PVIN3 (power), 14 PGND3 (power), 15 LX3 (power), 16 BST3 (power), 17 SS3 (power), 18 COMP3 (power), 19 FB3 (power), 20 ROSC (power), 21 AGND (power), 22 FB1 (power), 23 COMP1 (power), 24 SS1 (power), 25 BST1 (power), 26 LX1 (power), 27 PGND1 (power), 28 PVIN1  (power), 29 VIN (power), 30 VDIV (power), 31 EN1 (power), 32 EN2 (power)

## TPS65290
designator DD?
LOW QUIESCENT CURRENT, MULTI-MODE PMIC FOR BATTERY POWERED, ENERGY  HARVESTING APPLICATIONS; PortComponent: True; Published: 2013; Publisher: Altium Limited; HelpURL: http://www.ti.com/lit/ds/symlink/tps65290.pdf
pins: 1 PWR_VIN (power), 2 VIN (power), 3 PWR_VMAX (power), 4 VMAX (power), 5 LDO_IN (power), 6 LDO_OUT (power), 7 PWR_LDO1 (power), 8 PWR_LDO2 (power), 9 AGND (power), 10 VMICRO (power), 11 CE (power), 12 PWR_BB2 (power), 13 BB_EN (power), 14 PWR_BB1 (power), 15 BB_OUT (power), 16 BB_LX2 (power), 17 PGND (power), 18 BB_LX1 (power), 19 BB_VIN (power), 20 INT (power), 21 MISO (power), 22 CS (power), 23 SCL/SCK (power), 24 MOSI/SDA (power), 25 PPAD (power)

## TPS65320-Q1
designator DD?  Nane: TPS65320-Q1
40-V Step-Down Converter With Eco-mode™ and LDO Regulator
footprint PWP15_N (TSOP, 20-Leads, Body 6.5x4.4mm, Pitch 0.65mm, Thermal Pad 3.7x2.4 mm, IPC Medium Density)
pins: 1 BOOT (power), 2 VIN (power), 3 VIN_LDO (power), 4 LDO_OUT (power), 5 FB2 (power), 6 nRST (power), 7 EN2 (power), 8 EN1 (power), 9 RT/CLK (power), 10 SS (power), 11 FB1 (power), 12 COMP (power), 13 GND (power), 14 SW (power), 15 PPAD (power)

## TPS76333
designator DA?
Линейный стабилизатор напряжения
footprint SOT23-5_A
footprint SOT23-5_H
pins: 1 IN, 2 GND, 3 EN, 4 NC/FB, 5 OUT
text: *STU

## TPS78001
designator DD?
Single Output LDO, 150mA, Adj. (1.22V to 5.25V), 500nA Quiescent Current; Value: Value; Name: TPS78001
footprint WSON6 (PSON, 8-Leads, Body 4x4mm, Pitch 0.8mm, NSC Recommended)
pins: 1 OUT, 2 N/C, 3 VSET/ FB, 4 EN, 5 GND, 6 IN, 7 TPAD

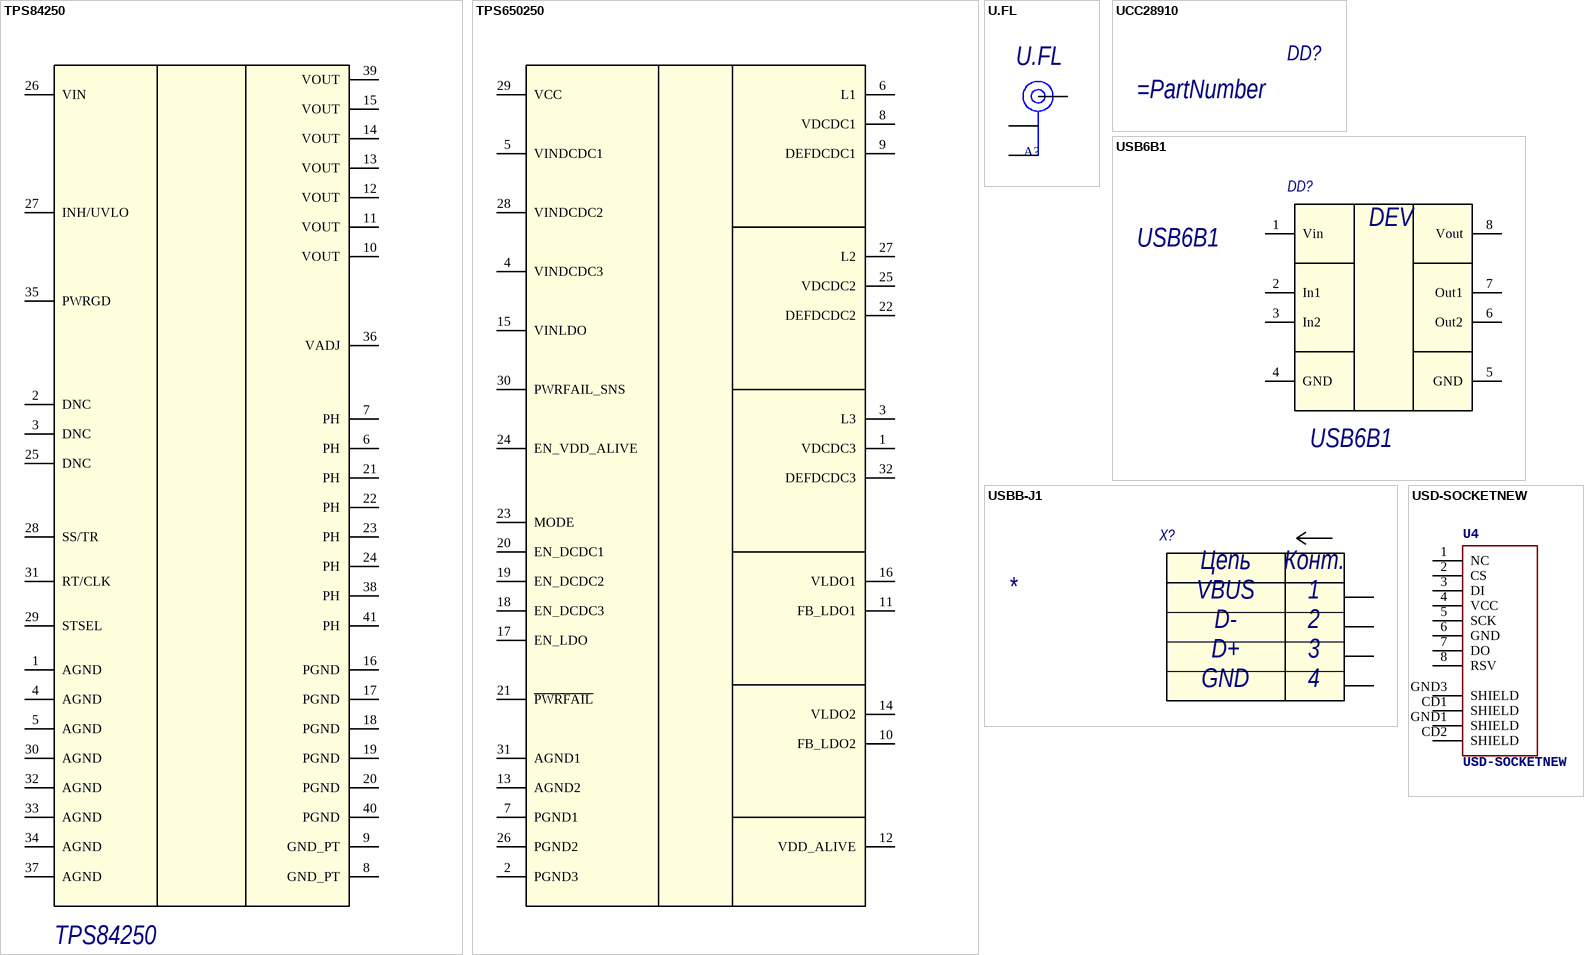
[diagram p43: symbols TPS84250 to USD-SOCKETNEW]

## TPS84250
designator DD?
7-V to 50-V Input, 2.5-A Step-Down, Integrated Power Solution; Name: TPS84250
footprint PB1QFN
pins: 1 AGND, 2 DNC, 3 DNC, 4 AGND, 5 AGND, 6 PH, 7 PH, 8 GND_PT, 9 GND_PT, 10 VOUT, 11 VOUT, 12 VOUT, 13 VOUT, 14 VOUT, 15 VOUT, 16 PGND, 17 PGND, 18 PGND, 19 PGND, 20 PGND, 21 PH, 22 PH, 23 PH, 24 PH, 25 DNC, 26 VIN, 27 INH/UVLO, 28 SS/TR, 29 STSEL, 30 AGND, 31 RT/CLK, 32 AGND, 33 AGND, 34 AGND, 35 PWRGD, 36 VADJ, 37 AGND, 38 PH, 39 VOUT, 40 PGND, 41 PH

## TPS650250
designator DD?
Power Management IC for Li-Ion Powered Systems; PortComponent: True; Published: 2008; Publisher: Altium Limited; HelpURL: http://www.ti.com/lit/ds/symlink/tps650250.pdf
footprint VQFN32
pins: 1 VDCDC3 (power), 2 PGND3 (power), 3 L3 (power), 4 VINDCDC3 (power), 5 VINDCDC1 (power), 6 L1 (power), 7 PGND1 (power), 8 VDCDC1 (power), 9 DEFDCDC1 (power), 10 FB_LDO2 (power), 11 FB_LDO1 (power), 12 VDD_ALIVE (power), 13 AGND2 (power), 14 VLDO2 (power), 15 VINLDO (power), 16 VLDO1 (power), 17 EN_LDO (power), 18 EN_DCDC3 (power), 19 EN_DCDC2 (power), 20 EN_DCDC1 (power), 21 ~{PWRFAIL} (power), 22 DEFDCDC2 (power), 23 MODE (power), 24 EN_VDD_ALIVE (power), 25 VDCDC2 (power), 26 PGND2 (power), 27 L2 (power), 28 VINDCDC2 (power), 29 VCC (power), 30 PWRFAIL_SNS (power), 31 AGND1 (power), 32 DEFDCDC3 (power)

## U.FL
designator A?
SMD antenna connector- WRL-09144; >NAME: U.FL
footprint U.FL
pins: 1 GND, 2 GND, 3 SIGNAL

## UCC28910
designator DD?
Name: Name; Value: Value

## USB6B1
designator DD?
Защита USB; Name: USB6B1
footprint SO8_H
pins: 1 Vin, 2 In1, 3 In2, 4 GND, 5 GND, 6 Out2, 7 Out1, 8 Vout
text: DEV

## USBB-J1
designator X?
VBUS: VBUS; D-: D-; D+: D+; GND: GND
footprint USBB-J1
pins: 1, 2, 3, 4
text: Цепь; Конт.

## USD-SOCKETNEW
designator U?  >NAME: U4  (hidden comment: USD-SOCKETNEW)
<b>microSD Socket</b> / Push-push type uSD socket. Schematic element and footprint production proven. Spark Fun Electronics SKU : PRT-00127. tDoc lines correctly indicate media card edge positions when inserting (unlocked, locked, depressed).; >VALUE: USD-SOCKETNEW
footprint MICRO-SD-SOCKET-PP
pins: 1 NC, 2 CS, 3 DI, 4 VCC, 5 SCK, 6 GND, 7 DO, 8 RSV, CD1 SHIELD, CD2 SHIELD, GND1 SHIELD, GND3 SHIELD

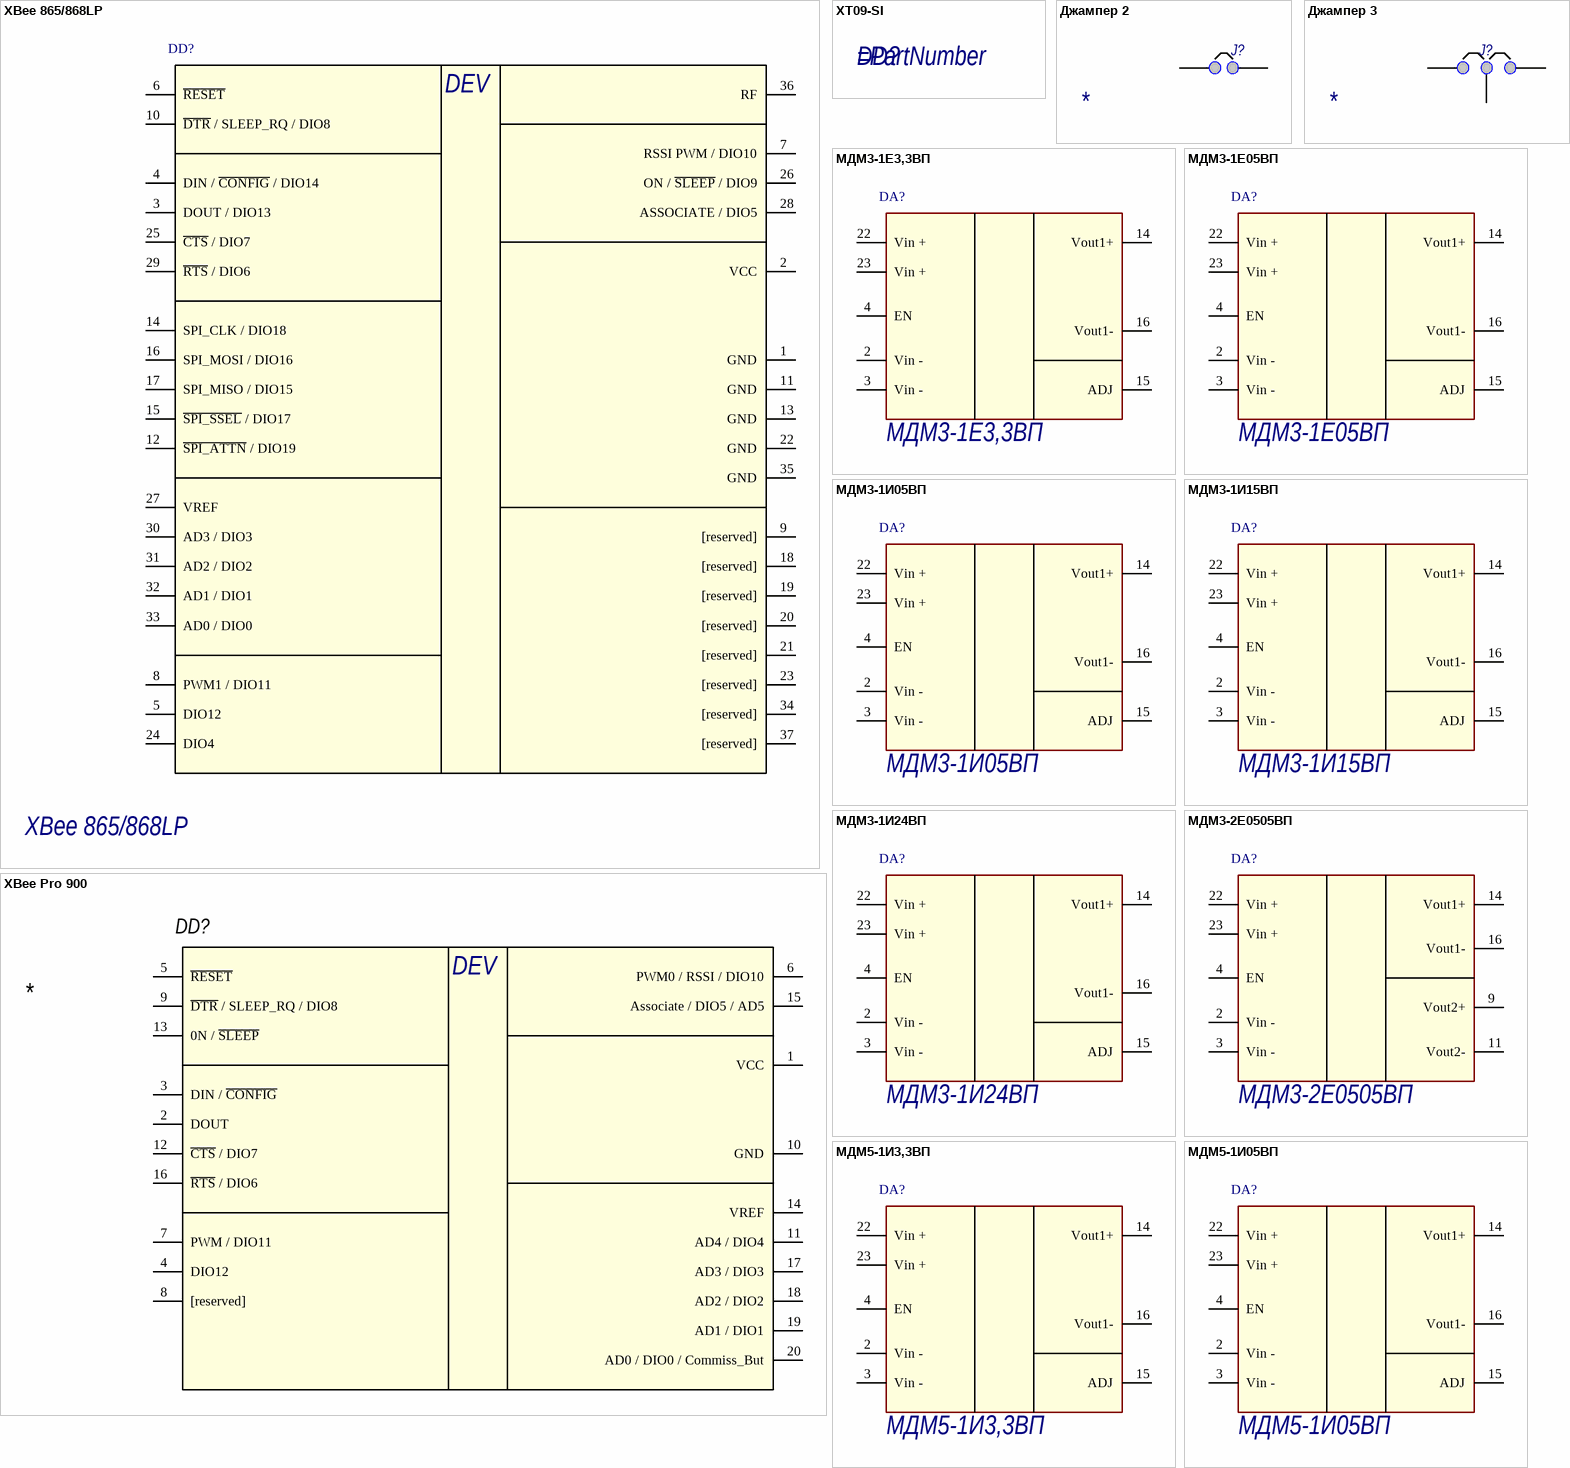
[diagram p44: symbols XBee 865/868LP to МДМ5-1И05ВП]

## XBee 865/868LP
designator DD?
Радиомодуль; Name: XBee 865/868LP
footprint XB868LP
pins: 1 GND, 2 VCC, 3 DOUT / DIO13, 4 DIN / ~{CONFIG} / DIO14, 5 DIO12, 6 ~{RESET}, 7 RSSI PWM / DIO10, 8 PWM1 / DIO11, 9 [reserved], 10 ~{DTR} / SLEEP_RQ / DIO8, 11 GND, 12 ~{SPI_ATTN} / DIO19, 13 GND, 14 SPI_CLK / DIO18, 15 ~{SPI_SSEL} / DIO17, 16 SPI_MOSI / DIO16, 17 SPI_MISO / DIO15, 18 [reserved], 19 [reserved], 20 [reserved], 21 [reserved], 22 GND, 23 [reserved], 24 DIO4, 25 ~{CTS} / DIO7, 26 ON / ~{SLEEP} / DIO9, 27 VREF, 28 ASSOCIATE / DIO5, 29 ~{RTS} / DIO6, 30 AD3 / DIO3, 31 AD2 / DIO2, 32 AD1 / DIO1, 33 AD0 / DIO0, 34 [reserved], 35 GND, 36 RF, 37 [reserved]
text: DEV

## XBee Pro 900
designator DD?
Радиомодуль; Manufacturer: Digi International; Manufacturer Part Number: XBP09-DMUIT-156; Voltage - Supply: 3 V ~ 3.6 V; Frequency: 900MHz; Modulation or Protocol: FHSS; Sensitivity: -100dBm; Data Rate (Max): 156kbps; Current - Receiving: 80mA; Current - Transmitting: 210mA; Data Interface: PCB, Through Hole; Antenna Connector: U.FL; Power - Output: 17dBm (50mW); Supplier 1: Digi-Key; Supplier: Digi-Key; RoHS: RoHS Compliant; Applications: Wireless Mesh Networks; Memory Size: -; Operating Temperature: -40°C ~ 85°C; Package / Case: Module; Category: RF/IF and RFID; Packaging: Bulk; Supplier Part Number 1: 602-1131-ND; Supplier Part Number: 602-1131-ND
footprint XB900PRO
pins: 1 VCC, 2 DOUT, 3 DIN / ~{CONFIG}, 4 DIO12, 5 ~{RESET}, 6 PWM0 / RSSI / DIO10, 7 PWM / DIO11, 8 [reserved], 9 ~{DTR} / SLEEP_RQ / DIO8, 10 GND, 11 AD4 / DIO4, 12 ~{CTS} / DIO7, 13 0N / ~{SLEEP}, 14 VREF, 15 Associate / DIO5 / AD5, 16 ~{RTS} / DIO6, 17 AD3 / DIO3, 18 AD2 / DIO2, 19 AD1 / DIO1, 20 AD0 / DIO0 / Commiss_But
text: DEV

## XT09-SI
designator DD?
RF Modules 900MHz - XTend; Name: Name; Value: Value

## Джампер 2
designator J?
Джампер с двумя контактами
footprint PLS2-2
footprint PLS-2
pins: 1, 2

## Джампер 3
designator J?
Джампер с тремя контактами
footprint PLS2-3
pins: 1, 2, 3

## МДМ3-1Е3,3ВП
designator DA?
Модуль питания 1 канал  3Вт, 3.3В; Name: МДМ3-1Е3,3ВП
footprint МДМ3-2E0505ВП
pins: 2 Vin -, 3 Vin -, 4 EN, 14 Vout1+, 15 ADJ, 16 Vout1-, 22 Vin +, 23 Vin +

## МДМ3-1Е05ВП
designator DA?
Модуль питания 1 канал 3Вт, 5В; Name: МДМ3-1Е05ВП
footprint МДМ3-2E0505ВП
pins: 2 Vin -, 3 Vin -, 4 EN, 14 Vout1+, 15 ADJ, 16 Vout1-, 22 Vin +, 23 Vin +

## МДМ3-1И05ВП
designator DA?
Модуль питания 1 канал 3Вт, 5 В; Name: МДМ3-1И05ВП
footprint МДМ3-1И
pins: 2 Vin -, 3 Vin -, 4 EN, 14 Vout1+, 15 ADJ, 16 Vout1-, 22 Vin +, 23 Vin +

## МДМ3-1И15ВП
designator DA?
Модуль питания 1 канал 3Вт, 3,3 В; Name: МДМ3-1И15ВП
footprint МДМ3-1И
pins: 2 Vin -, 3 Vin -, 4 EN, 14 Vout1+, 15 ADJ, 16 Vout1-, 22 Vin +, 23 Vin +

## МДМ3-1И24ВП
designator DA?
Модуль питания 1 канал 3Вт, 24 В; Name: МДМ3-1И24ВП
footprint МДМ3-1И
pins: 2 Vin -, 3 Vin -, 4 EN, 14 Vout1+, 15 ADJ, 16 Vout1-, 22 Vin +, 23 Vin +

## МДМ3-2Е0505ВП
designator DA?
Модуль питания 2 канала 3Вт, 5В; Name: МДМ3-2Е0505ВП
footprint МДМ3-2E0505ВП
pins: 2 Vin -, 3 Vin -, 4 EN, 9 Vout2+, 11 Vout2-, 14 Vout1+, 16 Vout1-, 22 Vin +, 23 Vin +

## МДМ5-1И3,3ВП
designator DA?
Модуль питания 1 канал 5Вт, 3,3 В; Name: МДМ5-1И3,3ВП
footprint МДМ3-1И
pins: 2 Vin -, 3 Vin -, 4 EN, 14 Vout1+, 15 ADJ, 16 Vout1-, 22 Vin +, 23 Vin +

## МДМ5-1И05ВП
designator DA?
Модуль питания 1 канал 5Вт, 5 В; Name: МДМ5-1И05ВП
footprint МДМ3-1И
pins: 2 Vin -, 3 Vin -, 4 EN, 14 Vout1+, 15 ADJ, 16 Vout1-, 22 Vin +, 23 Vin +

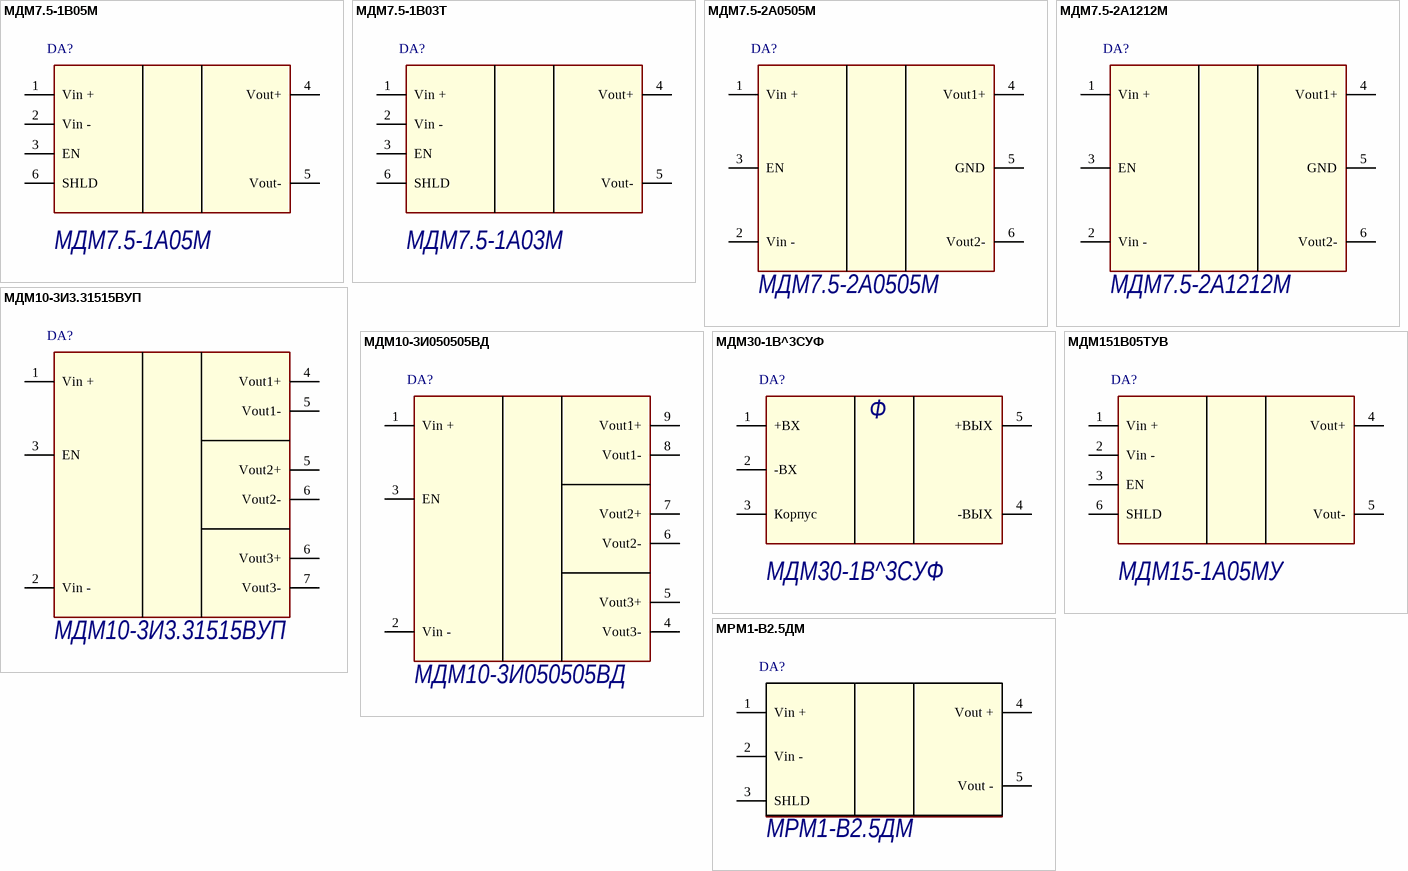
[diagram p45: symbols МДМ7.5-1B05M to МРМ1-В2.5ДМ]

## МДМ7.5-1B05M
designator DA?, comment МДМ7.5-1A05M
Модуль питания 1 канал 7.5Вт 5В; Name: МДМ7.5-1A05M
footprint МДМ7,5-1
pins: 1 Vin +, 2 Vin -, 3 EN, 4 Vout+, 5 Vout-, 6 SHLD

## МДМ7.5-1В03Т
designator DA?, comment МДМ7.5-1A03M
Модуль питания 1 канал 7,5Вт 3В; Name: МДМ7.5-1A03M
footprint МДМ7,5-1
pins: 1 Vin +, 2 Vin -, 3 EN, 4 Vout+, 5 Vout-, 6 SHLD

## МДМ7.5-2A0505M
designator DA?
Модуль питания 2 каналf 7.5Вт +5В, -5В; Name: МДМ7.5-2A0505M
footprint МДМ7,5-2
pins: 1 Vin +, 2 Vin -, 3 EN, 4 Vout1+, 5 GND, 6 Vout2-

## МДМ7.5-2A1212M
designator DA?
Модуль питания 2 каналf 7.5Вт +12В, -12В; Name: МДМ7.5-2A1212M
footprint МДМ7,5-2
pins: 1 Vin +, 2 Vin -, 3 EN, 4 Vout1+, 5 GND, 6 Vout2-

## МДМ10-3И3.31515ВУП
designator DA?
Модуль питания 2 каналf 7.5Вт +12В, -12В; Name: МДМ10-3И3.31515ВУП
footprint МДМ10-3И
pins: 1 Vin +, 2 Vin -, 3 EN, 4 Vout1+, 5 Vout1-, 5 Vout2+, 6 Vout3+, 6 Vout2-, 7 Vout3-

## МДМ10-3И050505ВД
designator DA?
Модуль питания 2 каналf 7.5Вт +12В, -12В; Name: МДМ10-3И050505ВД
footprint МДМ10-3И
pins: 1 Vin +, 2 Vin -, 3 EN, 4 Vout3-, 5 Vout3+, 6 Vout2-, 7 Vout2+, 8 Vout1-, 9 Vout1+

## МДМ30-1В^3СУФ
designator DA?
Модуль фильтра; Name: МДМ30-1В^3СУФ
footprint МДМ30-1ВТУФТ
pins: 1 +ВХ, 2 -ВХ, 3 Корпус, 4 -ВЫХ, 5 +ВЫХ
text: Ф

## МДМ151В05ТУВ
designator DA?, comment МДМ15-1A05MУ
Модуль питания 1 канал 10Вт; Name: МДМ15-1A05MУ
footprint МДМ10-1В05ТУВ
pins: 1 Vin +, 2 Vin -, 3 EN, 4 Vout+, 5 Vout-, 6 SHLD

## МРМ1-В2.5ДМ
designator DA?
Модуль питания 1 канал 10Вт; Name: МРМ1-В2.5ДМ
footprint МДМ10-1В05ТУВ
pins: 1 Vin +, 2 Vin -, 3 SHLD, 4 Vout +, 5 Vout -